# Altium schematic symbol library amd-mach.SCHLIB: 31 symbols (part 1 of 2)
Pins are listed as number, name and electrical type; pins without a type are passive.

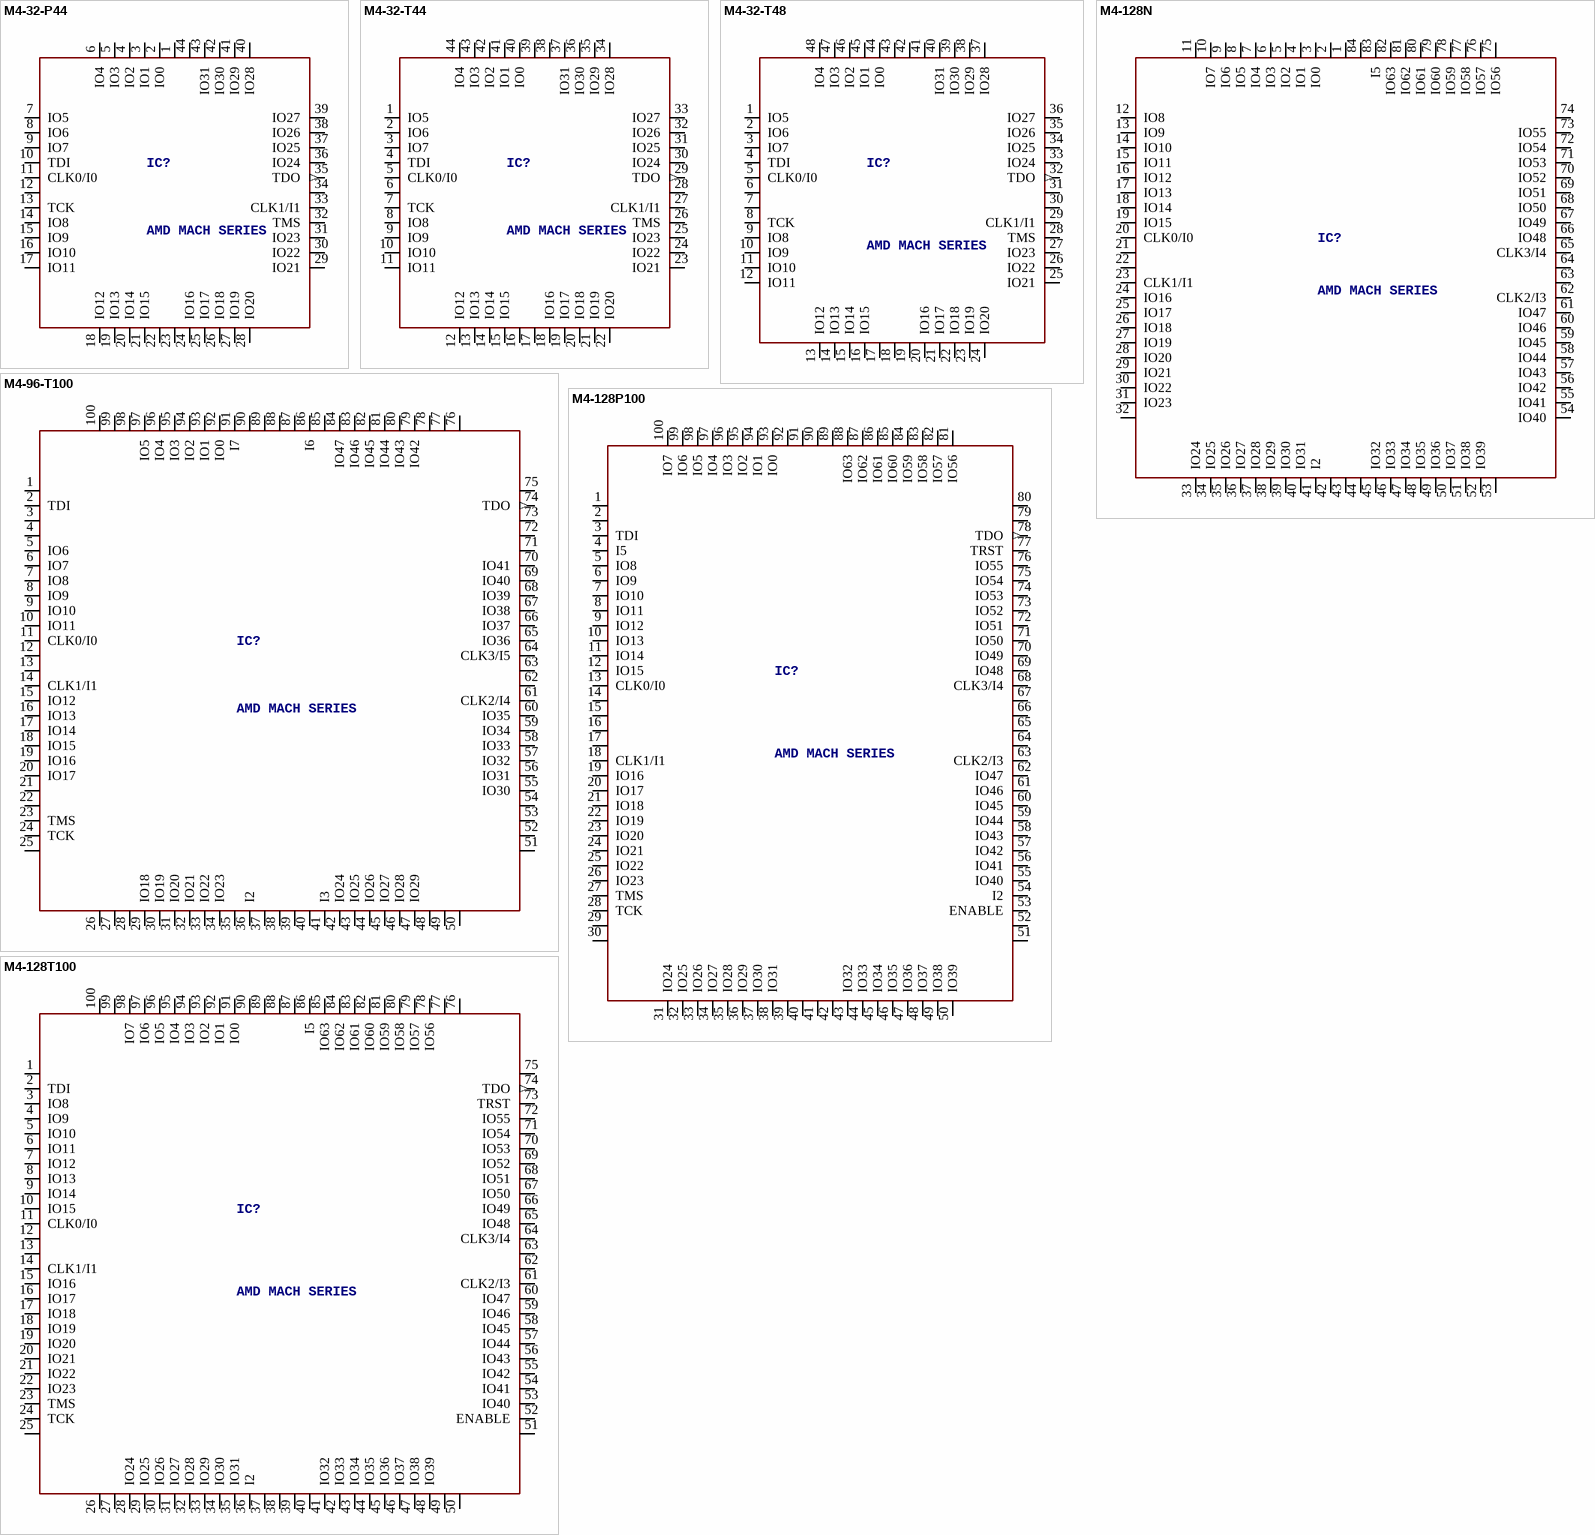
[diagram p0: symbols M4-32-P44 to M4-128T100]

## M4-32-P44
designator IC?, comment AMD MACH SERIES
OC_FARNELL: unknown; OC_NEWARK: unknown
footprint PLCC44
pins: 1 GND@1 (power), 2 IO0, 3 IO1, 4 IO2, 5 IO3, 6 IO4, 7 IO5, 8 IO6, 9 IO7, 10 TDI, 11 CLK0/I0, 12 GND@2 (power), 13 TCK, 14 IO8, 15 IO9, 16 IO10, 17 IO11, 18 IO12, 19 IO13, 20 IO14, 21 IO15, 22 VCC@1 (power), 23 GND@3 (power), 24 IO16, 25 IO17, 26 IO18, 27 IO19, 28 IO20, 29 IO21, 30 IO22, 31 IO23, 32 TMS, 33 CLK1/I1, 34 GND@4 (power), 35 TDO (out), 36 IO24, 37 IO25, 38 IO26, 39 IO27, 40 IO28, 41 IO29, 42 IO30, 43 IO31, 44 VCC@2 (power)

## M4-32-T44
designator IC?, comment AMD MACH SERIES
OC_FARNELL: unknown; OC_NEWARK: unknown
footprint TQFP44
pins: 1 IO5, 2 IO6, 3 IO7, 4 TDI, 5 CLK0/I0, 6 GND@2 (power), 7 TCK, 8 IO8, 9 IO9, 10 IO10, 11 IO11, 12 IO12, 13 IO13, 14 IO14, 15 IO15, 16 VCC@1 (power), 17 GND@3 (power), 18 IO16, 19 IO17, 20 IO18, 21 IO19, 22 IO20, 23 IO21, 24 IO22, 25 IO23, 26 TMS, 27 CLK1/I1, 28 GND@4 (power), 29 TDO (out), 30 IO24, 31 IO25, 32 IO26, 33 IO27, 34 IO28, 35 IO29, 36 IO30, 37 IO31, 38 VCC@2 (power), 39 GND@1 (power), 40 IO0, 41 IO1, 42 IO2, 43 IO3, 44 IO4

## M4-32-T48
designator IC?, comment AMD MACH SERIES
OC_FARNELL: unknown; OC_NEWARK: unknown
footprint TQFP48
pins: 1 IO5, 2 IO6, 3 IO7, 4 TDI, 5 CLK0/I0, 6 NC, 7 GND@2 (power), 8 TCK, 9 IO8, 10 IO9, 11 IO10, 12 IO11, 13 IO12, 14 IO13, 15 IO14, 16 IO15, 17 VCC@1 (power), 18 NC2, 19 GND@3 (power), 20 IO16, 21 IO17, 22 IO18, 23 IO19, 24 IO20, 25 IO21, 26 IO22, 27 IO23, 28 TMS, 29 CLK1/I1, 30 NC3, 31 GND@4 (power), 32 TDO (out), 33 IO24, 34 IO25, 35 IO26, 36 IO27, 37 IO28, 38 IO29, 39 IO30, 40 IO31, 41 VCC@2 (power), 42 NC4, 43 GND@1 (power), 44 IO0, 45 IO1, 46 IO2, 47 IO3, 48 IO4

## M4-96-T100
designator IC?, comment AMD MACH SERIES
OC_FARNELL: unknown; OC_NEWARK: unknown
footprint TQFP100
pins: 1 NC1, 2 TDI, 3 NC2, 4 NC3, 5 IO6, 6 IO7, 7 IO8, 8 IO9, 9 IO10, 10 IO11, 11 CLK0/I0, 12 VCC@1 (power), 13 GND@1 (power), 14 CLK1/I1, 15 IO12, 16 IO13, 17 IO14, 18 IO15, 19 IO16, 20 IO17, 21 NC4, 22 NC5, 23 TMS, 24 TCK, 25 NC6, 26 GND@2 (power), 27 NC7, 28 NC8, 29 IO18, 30 IO19, 31 IO20, 32 IO21, 33 IO22, 34 IO23, 35 NC9, 36 I2, 37 NC10, 38 NC11, 39 GND@3 (power), 40 VCC@2 (power), 41 I3, 42 IO24, 43 IO25, 44 IO26, 45 IO27, 46 IO28, 47 IO29, 48 NC12, 49 NC13, 50 GND@4 (power), 51 NC14, 52 NC15, 53 NC18, 54 NC19, 55 IO30, 56 IO31, 57 IO32, 58 IO33, 59 IO34, 60 IO35, 61 CLK2/I4, 62 VCC@3 (power), 63 GND@5 (power), 64 CLK3/I5, 65 IO36, 66 IO37, 67 IO38, 68 IO39, 69 IO40, 70 IO41, 71 NC20, 72 NC21, 73 NC22, 74 TDO (out), 75 NC23, 76 GND@6 (power), 77 NC24, 78 NC25, 79 IO42, 80 IO43, 81 IO44, 82 IO45, 83 IO46, 84 IO47, 85 NC26, 86 I6, 87 NC27, 88 NC28, 89 GND@7 (power), 90 VCC@4 (power), 91 I7, 92 IO0, 93 IO1, 94 IO2, 95 IO3, 96 IO4, 97 IO5, 98 NC29, 99 NC30, 100 GND@8 (power)

## M4-128N
designator IC?, comment AMD MACH SERIES
OC_FARNELL: 3010089; OC_NEWARK: unknown
footprint PLCC84
pins: 1 GND@1 (power), 2 VCC@1 (power), 3 IO0, 4 IO1, 5 IO2, 6 IO3, 7 IO4, 8 IO5, 9 IO6, 10 IO7, 11 GND@2 (power), 12 IO8, 13 IO9, 14 IO10, 15 IO11, 16 IO12, 17 IO13, 18 IO14, 19 IO15, 20 CLK0/I0, 21 VCC@2 (power), 22 GND@3 (power), 23 CLK1/I1, 24 IO16, 25 IO17, 26 IO18, 27 IO19, 28 IO20, 29 IO21, 30 IO22, 31 IO23, 32 GND@4 (power), 33 IO24, 34 IO25, 35 IO26, 36 IO27, 37 IO28, 38 IO29, 39 IO30, 40 IO31, 41 I2, 42 VCC@3 (power), 43 GND@5 (power), 44 VCC@4 (power), 45 IO32, 46 IO33, 47 IO34, 48 IO35, 49 IO36, 50 IO37, 51 IO38, 52 IO39, 53 GND@6 (power), 54 IO40, 55 IO41, 56 IO42, 57 IO43, 58 IO44, 59 IO45, 60 IO46, 61 IO47, 62 CLK2/I3, 63 VCC@5 (power), 64 GND@7 (power), 65 CLK3/I4, 66 IO48, 67 IO49, 68 IO50, 69 IO51, 70 IO52, 71 IO53, 72 IO54, 73 IO55, 74 GND@8 (power), 75 IO56, 76 IO57, 77 IO58, 78 IO59, 79 IO60, 80 IO61, 81 IO62, 82 IO63, 83 I5, 84 VCC@6 (power)

## M4-128P100
designator IC?, comment AMD MACH SERIES
OC_FARNELL: unknown; OC_NEWARK: unknown
footprint PQFP100
pins: 1 GND@1 (power), 2 GND@2 (power), 3 TDI, 4 I5, 5 IO8, 6 IO9, 7 IO10, 8 IO11, 9 IO12, 10 IO13, 11 IO14, 12 IO15, 13 CLK0/I0, 14 VCC@1 (power), 15 VCC@2 (power), 16 GND@3 (power), 17 GND@4 (power), 18 CLK1/I1, 19 IO16, 20 IO17, 21 IO18, 22 IO19, 23 IO20, 24 IO21, 25 IO22, 26 IO23, 27 TMS, 28 TCK, 29 GND@5 (power), 30 GND@6 (power), 31 IO24, 32 IO25, 33 IO26, 34 IO27, 35 IO28, 36 IO29, 37 IO30, 38 IO31, 39 VCC@4 (power), 40 GND@7 (power), 41 GND@8 (power), 42 VCC@5 (power), 43 IO32, 44 IO33, 45 IO34, 46 IO35, 47 IO36, 48 IO37, 49 IO38, 50 IO39, 51 GND@9 (power), 52 GND@10 (power), 53 ENABLE, 54 I2, 55 IO40, 56 IO41, 57 IO42, 58 IO43, 59 IO44, 60 IO45, 61 IO46, 62 IO47, 63 CLK2/I3, 64 VCC@6 (power), 65 VCC@7 (power), 66 GND@11 (power), 67 GND@12 (power), 68 CLK3/I4, 69 IO48, 70 IO49, 71 IO50, 72 IO51, 73 IO52, 74 IO53, 75 IO54, 76 IO55, 77 TRST, 78 TDO (out), 79 GND@13 (power), 80 GND@14 (power), 81 IO56, 82 IO57, 83 IO58, 84 IO59, 85 IO60, 86 IO61, 87 IO62, 88 IO63, 89 VCC@8 (power), 90 GND@15 (power), 91 GND@16 (power), 92 VCC@9 (power), 93 IO0, 94 IO1, 95 IO2, 96 IO3, 97 IO4, 98 IO5, 99 IO6, 100 IO7

## M4-128T100
designator IC?, comment AMD MACH SERIES
OC_FARNELL: unknown; OC_NEWARK: unknown
footprint TQFP100
pins: 1 GND@1 (power), 2 TDI, 3 IO8, 4 IO9, 5 IO10, 6 IO11, 7 IO12, 8 IO13, 9 IO14, 10 IO15, 11 CLK0/I0, 12 VCC@1 (power), 13 GND@2 (power), 14 CLK1/I1, 15 IO16, 16 IO17, 17 IO18, 18 IO19, 19 IO20, 20 IO21, 21 IO22, 22 IO23, 23 TMS, 24 TCK, 25 GND@3 (power), 26 GND@4 (power), 27 GND@5 (power), 28 IO24, 29 IO25, 30 IO26, 31 IO27, 32 IO28, 33 IO29, 34 IO30, 35 IO31, 36 I2, 37 VCC@4 (power), 38 GND@6 (power), 39 GND@7 (power), 40 VCC@5 (power), 41 IO32, 42 IO33, 43 IO34, 44 IO35, 45 IO36, 46 IO37, 47 IO38, 48 IO39, 49 GND@8 (power), 50 GND@9 (power), 51 GND@10 (power), 52 ENABLE, 53 IO40, 54 IO41, 55 IO42, 56 IO43, 57 IO44, 58 IO45, 59 IO46, 60 IO47, 61 CLK2/I3, 62 VCC@7 (power), 63 GND@11 (power), 64 CLK3/I4, 65 IO48, 66 IO49, 67 IO50, 68 IO51, 69 IO52, 70 IO53, 71 IO54, 72 IO55, 73 TRST, 74 TDO (out), 75 GND@12 (power), 76 GND@13 (power), 77 GND@14 (power), 78 IO56, 79 IO57, 80 IO58, 81 IO59, 82 IO60, 83 IO61, 84 IO62, 85 IO63, 86 I5, 87 VCC@8 (power), 88 GND@15 (power), 89 GND@16 (power), 90 VCC@9 (power), 91 IO0, 92 IO1, 93 IO2, 94 IO3, 95 IO4, 96 IO5, 97 IO6, 98 IO7, 99 GND@17 (power), 100 GND@18 (power)

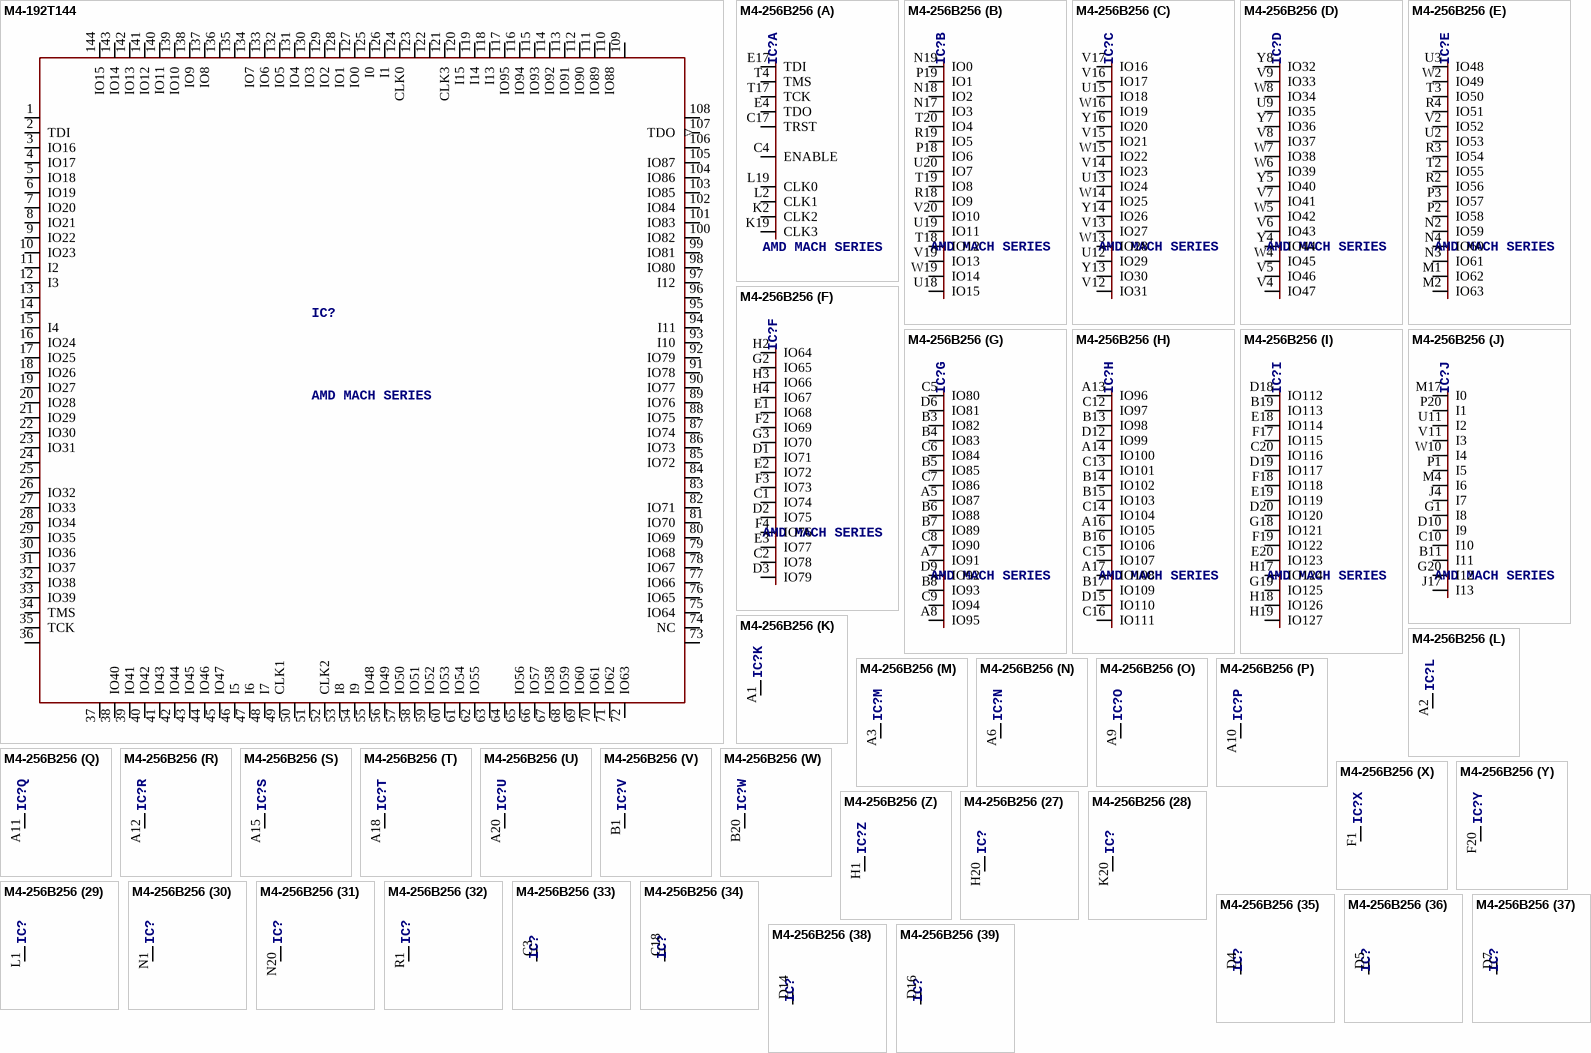
[diagram p1: symbols M4-192T144 to M4-256B256]

## M4-192T144
designator IC?, comment AMD MACH SERIES
OC_FARNELL: unknown; OC_NEWARK: unknown
footprint TQFP144
pins: 1 GND@1 (power), 2 TDI, 3 IO16, 4 IO17, 5 IO18, 6 IO19, 7 IO20, 8 IO21, 9 IO22, 10 IO23, 11 I2, 12 I3, 13 VCC@1 (power), 14 GND@2 (power), 15 I4, 16 IO24, 17 IO25, 18 IO26, 19 IO27, 20 IO28, 21 IO29, 22 IO30, 23 IO31, 24 GND@3 (power), 25 VCC@2 (power), 26 IO32, 27 IO33, 28 IO34, 29 IO35, 30 IO36, 31 IO37, 32 IO38, 33 IO39, 34 TMS, 35 TCK, 36 GND@4 (power), 37 GND@5 (power), 38 IO40, 39 IO41, 40 IO42, 41 IO43, 42 IO44, 43 IO45, 44 IO46, 45 IO47, 46 I5, 47 I6, 48 I7, 49 CLK1, 50 GND@9 (power), 51 VCC@3 (power), 52 CLK2, 53 I8, 54 I9, 55 IO48, 56 IO49, 57 IO50, 58 IO51, 59 IO52, 60 IO53, 61 IO54, 62 IO55, 63 VCC@4 (power), 64 GND@11 (power), 65 IO56, 66 IO57, 67 IO58, 68 IO59, 69 IO60, 70 IO61, 71 IO62, 72 IO63, 73 GND@12 (power), 74 NC, 75 IO64, 76 IO65, 77 IO66, 78 IO67, 79 IO68, 80 IO69, 81 IO70, 82 IO71, 83 VCC@5 (power), 84 GND@13 (power), 85 IO72, 86 IO73, 87 IO74, 88 IO75, 89 IO76, 90 IO77, 91 IO78, 92 IO79, 93 I10, 94 I11, 95 GND@14 (power), 96 VCC@7 (power), 97 I12, 98 IO80, 99 IO81, 100 IO82, 101 IO83, 102 IO84, 103 IO85, 104 IO86, 105 IO87, 106 NC1, 107 TDO (out), 108 GND@15 (power), 109 GND@16 (power), 110 IO88, 111 IO89, 112 IO90, 113 IO91, 114 IO92, 115 IO93, 116 IO94, 117 IO95, 118 I13, 119 I14, 120 I15, 121 CLK3, 122 VCC@8 (power), 123 GND@17 (power), 124 CLK0, 125 I0, 126 I1, 127 IO0, 128 IO1, 129 IO2, 130 IO3, 131 IO4, 132 IO5, 133 IO6, 134 IO7, 135 VCC@9 (power), 136 GND@18 (power), 137 IO8, 138 IO9, 139 IO10, 140 IO11, 141 IO12, 142 IO13, 143 IO14, 144 IO15

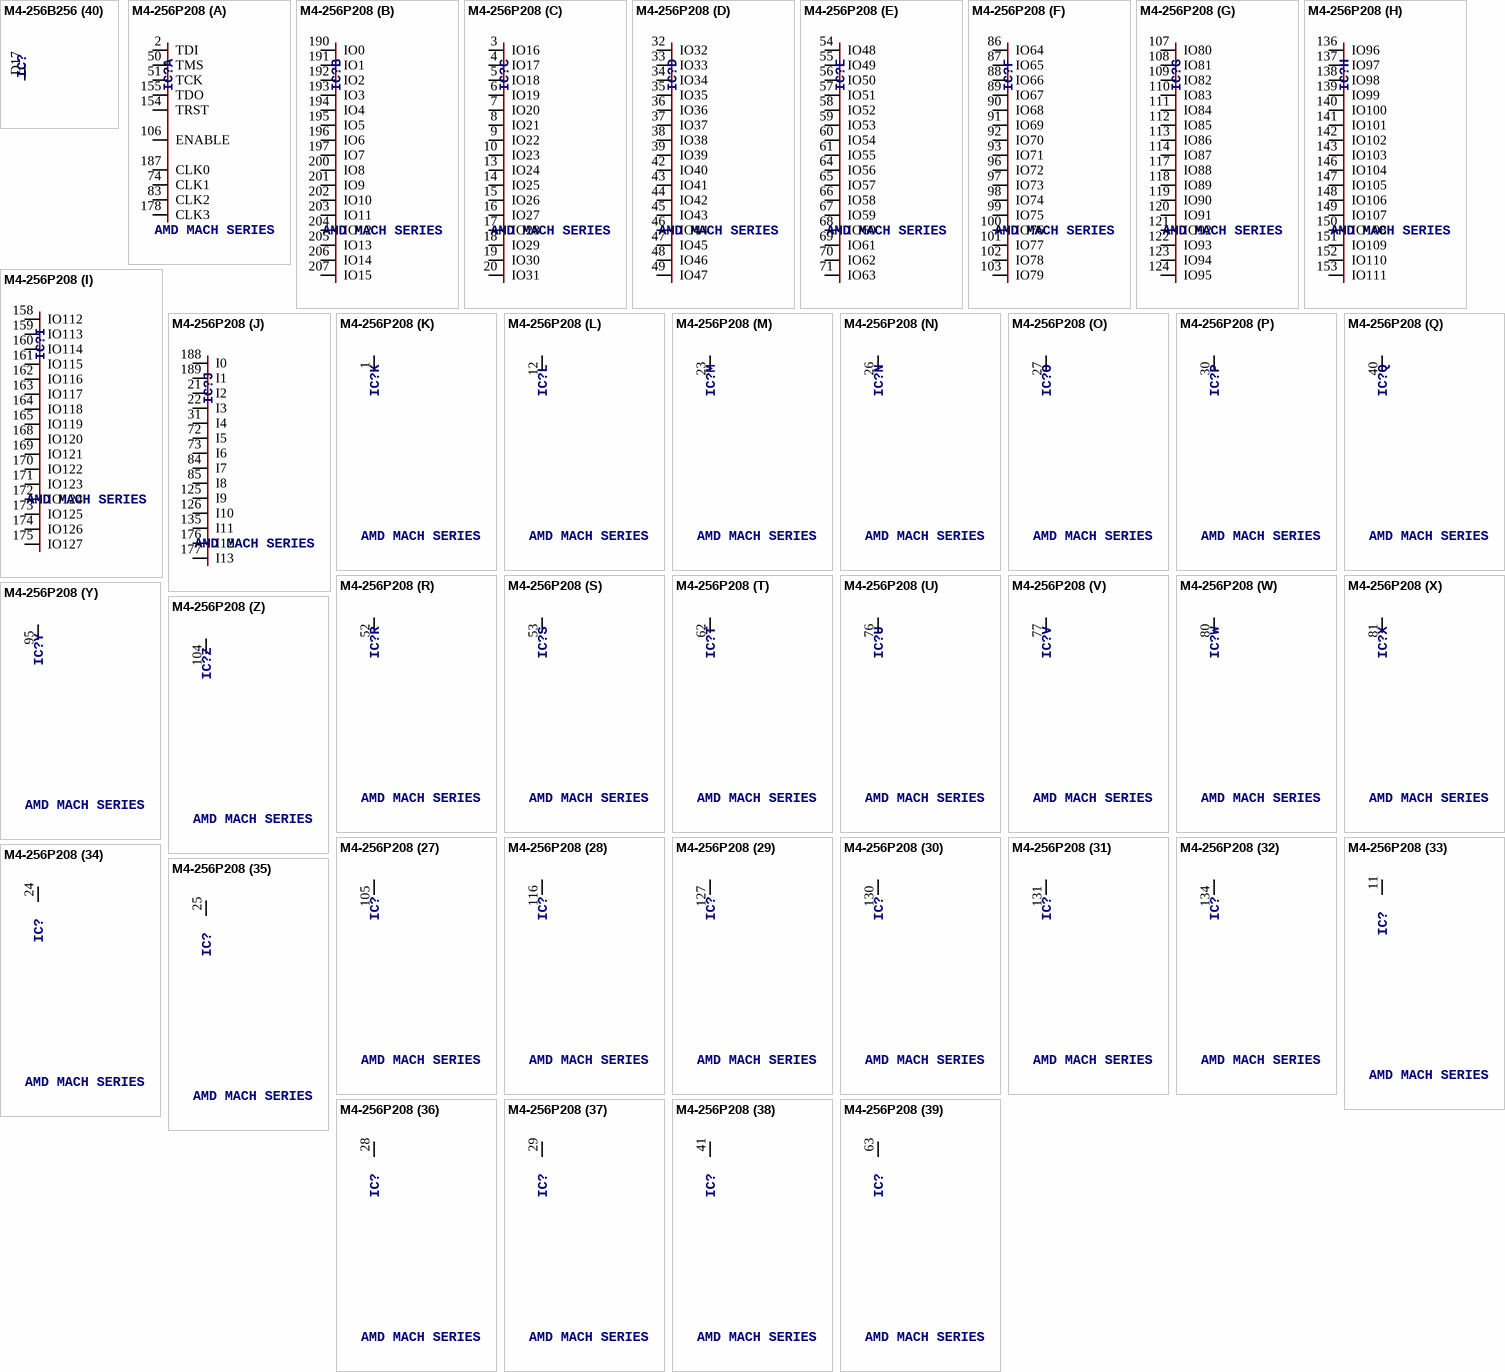
[diagram p2: symbols M4-256B256 to M4-256P208]

## M4-256B256
designator IC?, comment AMD MACH SERIES
OC_FARNELL: unknown; OC_NEWARK: unknown
footprint BGA256S
part A pins: C4 ENABLE, C17 TRST, E4 TDO, E17 TDI, K2 CLK2, K19 CLK3, L2 CLK1, L19 CLK0, T4 TMS, T17 TCK
part B pins: N17 IO3, N18 IO2, N19 IO0, P18 IO6, P19 IO1, R18 IO9, R19 IO5, T18 IO12, T19 IO8, T20 IO4, U18 IO15, U19 IO11, U20 IO7, V19 IO13, V20 IO10, W19 IO14
part C pins: U12 IO29, U13 IO24, U15 IO18, V12 IO31, V13 IO27, V14 IO23, V15 IO21, V16 IO17, V17 IO16, W13 IO28, W14 IO25, W15 IO22, W16 IO19, Y13 IO30, Y14 IO26, Y16 IO20
part D pins: U9 IO35, V4 IO47, V5 IO46, V6 IO43, V7 IO41, V8 IO37, V9 IO33, W4 IO45, W5 IO42, W6 IO39, W7 IO38, W8 IO34, Y4 IO44, Y5 IO40, Y7 IO36, Y8 IO32
part E pins: M1 IO62, M2 IO63, N2 IO59, N3 IO61, N4 IO60, P2 IO58, P3 IO57, R2 IO56, R3 IO54, R4 IO51, T2 IO55, T3 IO50, U2 IO53, U3 IO48, V2 IO52, W2 IO49
part F pins: C1 IO74, C2 IO78, D1 IO71, D2 IO75, D3 IO79, E1 IO68, E2 IO72, E3 IO77, F2 IO69, F3 IO73, F4 IO76, G2 IO65, G3 IO70, H2 IO64, H3 IO66, H4 IO67
part G pins: A5 IO87, A7 IO91, A8 IO95, B3 IO82, B4 IO83, B5 IO85, B6 IO88, B7 IO89, B8 IO93, C5 IO80, C6 IO84, C7 IO86, C8 IO90, C9 IO94, D6 IO81, D9 IO92
part H pins: A13 IO96, A14 IO100, A16 IO105, A17 IO108, B13 IO98, B14 IO102, B15 IO103, B16 IO106, B17 IO109, C12 IO97, C13 IO101, C14 IO104, C15 IO107, C16 IO111, D12 IO99, D15 IO110
part I pins: B19 IO113, C20 IO116, D18 IO112, D19 IO117, D20 IO120, E18 IO114, E19 IO119, E20 IO123, F17 IO115, F18 IO118, F19 IO122, G18 IO121, G19 IO125, H17 IO124, H18 IO126, H19 IO127
part J pins: B11 I11, C10 I10, D10 I9, G1 I8, G20 I12, J4 I7, J17 I13, M4 I6, M17 I0, P1 I5, P20 I1, U11 I2, V11 I3, W10 I4
part K pins: A1 GND (power)
part L pins: A2 GND (power)
part M pins: A3 GND (power)
part N pins: A6 GND (power)
part O pins: A9 GND (power)
part P pins: A10 GND (power)
part Q pins: A11 GND (power)
part R pins: A12 GND (power)
part S pins: A15 GND (power)
part T pins: A18 GND (power)
part U pins: A20 GND (power)
part V pins: B1 GND (power)
part W pins: B20 GND (power)
part X pins: F1 GND (power)
part Y pins: F20 GND (power)
part Z pins: H1 GND (power)
part 27 pins: H20 GND (power)
part 28 pins: K20 GND (power)
part 29 pins: L1 GND (power)
part 30 pins: N1 GND (power)
part 31 pins: N20 GND (power)
part 32 pins: R1 GND (power)
part 33 pins: C3 VCC (power)
part 34 pins: C18 VCC (power)
part 35 pins: D4 VCC (power)
part 36 pins: D5 VCC (power)
part 37 pins: D7 VCC (power)
part 38 pins: D14 VCC (power)
part 39 pins: D16 VCC (power)
part 40 pins: D17 VCC (power)
part 41 pins: G4 VCC (power)
part 42 pins: G17 VCC (power)
part 43 pins: P4 VCC (power)
part 44 pins: P17 VCC (power)
part 45 pins: U4 VCC (power)
part 46 pins: U5 VCC (power)
part 47 pins: U7 VCC (power)
part 48 pins: U14 VCC (power)
part 49 pins: U16 VCC (power)
part 50 pins: U17 VCC (power)
part 51 pins: V3 VCC (power)
part 52 pins: V18 VCC (power)
part 53 pins: R20 GND (power)
part 54 pins: W1 GND (power)
part 55 pins: W20 GND (power)
part 56 pins: Y1 GND (power)
part 57 pins: Y3 GND (power)
part 58 pins: Y6 GND (power)
part 59 pins: Y9 GND (power)
part 60 pins: Y10 GND (power)
part 61 pins: Y11 GND (power)
part 62 pins: Y12 GND (power)
part 63 pins: A4 NC
part 64 pins: A19 NC
part 65 pins: B2 NC
part 66 pins: B9 NC
part 67 pins: B10 NC
part 68 pins: B12 NC
part 69 pins: B18 NC
part 70 pins: C11 NC
part 71 pins: C19 NC
part 72 pins: D8 NC
part 73 pins: D11 NC
part 74 pins: D13 NC
part 75 pins: J1 NC
part 76 pins: J2 NC
part 77 pins: J3 NC
part 78 pins: J18 NC
part 79 pins: J19 NC
part 80 pins: J20 NC
part 81 pins: K1 NC
part 82 pins: K3 NC
part 83 pins: K4 NC
part 84 pins: K17 NC
part 85 pins: K18 NC
part 86 pins: L3 NC
part 87 pins: L4 NC
part 88 pins: L17 NC
part 89 pins: L18 NC
part 90 pins: L20 NC
part 91 pins: M3 NC
part 92 pins: M18 NC
part 93 pins: M19 NC
part 94 pins: M20 NC
part 95 pins: R17 NC
part 96 pins: T1 NC
part 97 pins: U1 NC
part 98 pins: U6 NC
part 99 pins: U8 NC
part 100 pins: U10 NC
part 101 pins: V1 NC
part 102 pins: V10 NC
part 103 pins: W3 NC
part 104 pins: W9 NC
part 105 pins: W11 NC
part 106 pins: W12 NC
part 107 pins: W17 NC
part 108 pins: W18 NC
part 109 pins: Y2 NC
part 110 pins: Y17 NC
part 111 pins: Y15 GND (power)
part 112 pins: Y18 GND (power)
part 113 pins: Y19 GND (power)
part 114 pins: Y20 GND (power)

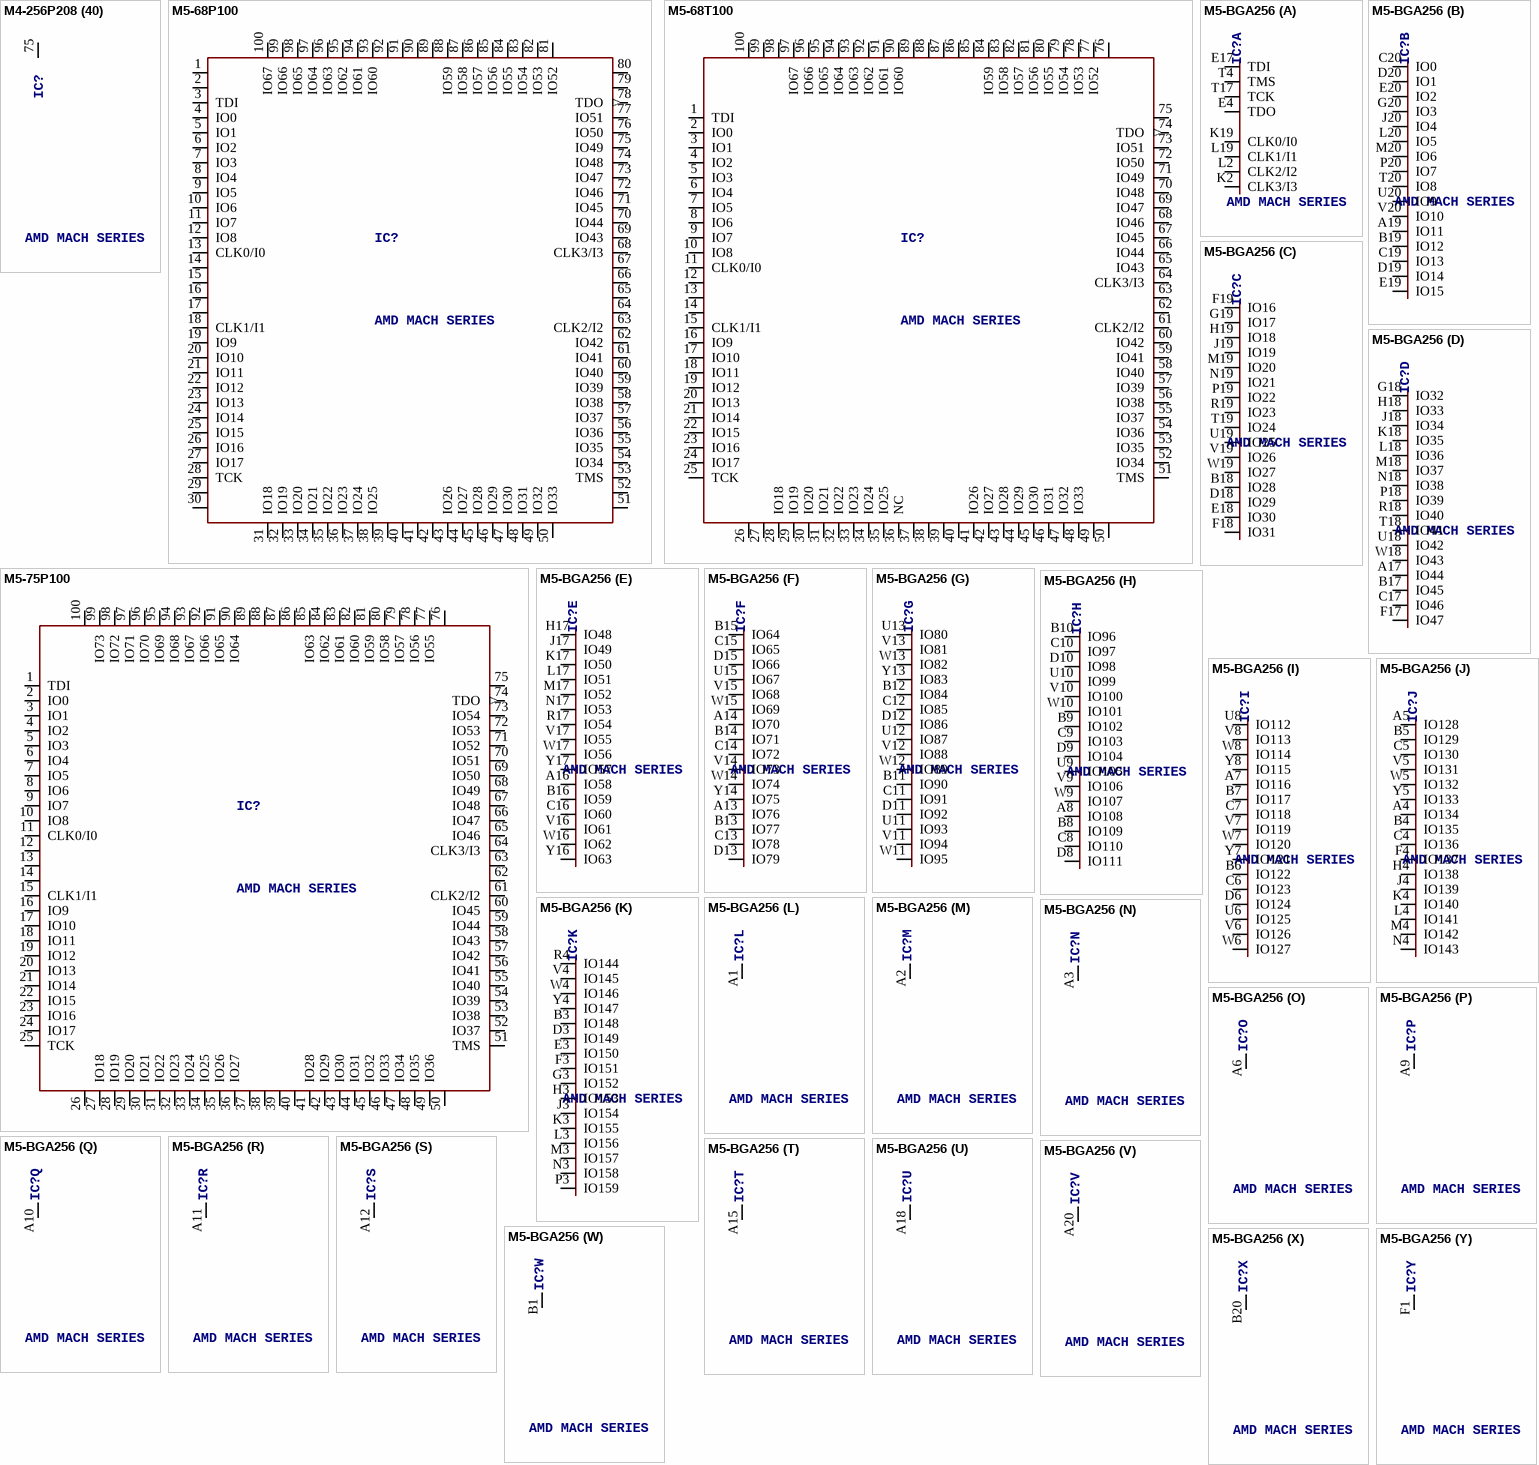
[diagram p3: symbols M4-256P208 to M5-BGA256]

## M4-256P208
designator IC?, comment AMD MACH SERIES
OC_FARNELL: unknown; OC_NEWARK: unknown
footprint PQFP208
part A pins: 2 TDI, 50 TMS, 51 TCK, 74 CLK1, 83 CLK2, 106 ENABLE, 154 TRST, 155 TDO, 178 CLK3, 187 CLK0
part B pins: 190 IO0, 191 IO1, 192 IO2, 193 IO3, 194 IO4, 195 IO5, 196 IO6, 197 IO7, 200 IO8, 201 IO9, 202 IO10, 203 IO11, 204 IO12, 205 IO13, 206 IO14, 207 IO15
part C pins: 3 IO16, 4 IO17, 5 IO18, 6 IO19, 7 IO20, 8 IO21, 9 IO22, 10 IO23, 13 IO24, 14 IO25, 15 IO26, 16 IO27, 17 IO28, 18 IO29, 19 IO30, 20 IO31
part D pins: 32 IO32, 33 IO33, 34 IO34, 35 IO35, 36 IO36, 37 IO37, 38 IO38, 39 IO39, 42 IO40, 43 IO41, 44 IO42, 45 IO43, 46 IO44, 47 IO45, 48 IO46, 49 IO47
part E pins: 54 IO48, 55 IO49, 56 IO50, 57 IO51, 58 IO52, 59 IO53, 60 IO54, 61 IO55, 64 IO56, 65 IO57, 66 IO58, 67 IO59, 68 IO60, 69 IO61, 70 IO62, 71 IO63
part F pins: 86 IO64, 87 IO65, 88 IO66, 89 IO67, 90 IO68, 91 IO69, 92 IO70, 93 IO71, 96 IO72, 97 IO73, 98 IO74, 99 IO75, 100 IO76, 101 IO77, 102 IO78, 103 IO79
part G pins: 107 IO80, 108 IO81, 109 IO82, 110 IO83, 111 IO84, 112 IO85, 113 IO86, 114 IO87, 117 IO88, 118 IO89, 119 IO90, 120 IO91, 121 IO92, 122 IO93, 123 IO94, 124 IO95
part H pins: 136 IO96, 137 IO97, 138 IO98, 139 IO99, 140 IO100, 141 IO101, 142 IO102, 143 IO103, 146 IO104, 147 IO105, 148 IO106, 149 IO107, 150 IO108, 151 IO109, 152 IO110, 153 IO111
part I pins: 158 IO112, 159 IO113, 160 IO114, 161 IO115, 162 IO116, 163 IO117, 164 IO118, 165 IO119, 168 IO120, 169 IO121, 170 IO122, 171 IO123, 172 IO124, 173 IO125, 174 IO126, 175 IO127
part J pins: 21 I2, 22 I3, 31 I4, 72 I5, 73 I6, 84 I7, 85 I8, 125 I9, 126 I10, 135 I11, 176 I12, 177 I13, 188 I0, 189 I1
part K pins: 1 GND (power)
part L pins: 12 GND (power)
part M pins: 23 GND (power)
part N pins: 26 GND (power)
part O pins: 27 GND (power)
part P pins: 30 GND (power)
part Q pins: 40 GND (power)
part R pins: 52 GND (power)
part S pins: 53 GND (power)
part T pins: 62 GND (power)
part U pins: 76 GND (power)
part V pins: 77 GND (power)
part W pins: 80 GND (power)
part X pins: 81 GND (power)
part Y pins: 95 GND (power)
part Z pins: 104 GND (power)
part 27 pins: 105 GND (power)
part 28 pins: 116 GND (power)
part 29 pins: 127 GND (power)
part 30 pins: 130 GND (power)
part 31 pins: 131 GND (power)
part 32 pins: 134 GND (power)
part 33 pins: 11 VCC (power)
part 34 pins: 24 VCC (power)
part 35 pins: 25 VCC (power)
part 36 pins: 28 VCC (power)
part 37 pins: 29 VCC (power)
part 38 pins: 41 VCC (power)
part 39 pins: 63 VCC (power)
part 40 pins: 75 VCC (power)
part 41 pins: 78 VCC (power)
part 42 pins: 79 VCC (power)
part 43 pins: 82 VCC (power)
part 44 pins: 94 VCC (power)
part 45 pins: 115 VCC (power)
part 46 pins: 128 VCC (power)
part 47 pins: 129 VCC (power)
part 48 pins: 132 VCC (power)
part 49 pins: 133 VCC (power)
part 50 pins: 145 VCC (power)
part 51 pins: 167 VCC (power)
part 52 pins: 179 VCC (power)
part 53 pins: 182 VCC (power)
part 54 pins: 183 VCC (power)
part 55 pins: 144 GND (power)
part 56 pins: 156 GND (power)
part 57 pins: 157 GND (power)
part 58 pins: 166 GND (power)
part 59 pins: 180 GND (power)
part 60 pins: 181 GND (power)
part 61 pins: 184 GND (power)
part 62 pins: 185 GND (power)
part 63 pins: 199 GND (power)
part 64 pins: 208 GND (power)
part 65 pins: 186 VCC (power)
part 66 pins: 198 VCC (power)

## M5-68P100
designator IC?, comment AMD MACH SERIES
OC_FARNELL: unknown; OC_NEWARK: unknown
footprint PQFP100
pins: 1 GND@1 (power), 2 GND@2 (power), 3 TDI, 4 IO0, 5 IO1, 6 IO2, 7 IO3, 8 IO4, 9 IO5, 10 IO6, 11 IO7, 12 IO8, 13 CLK0/I0, 14 VCC@1 (power), 15 VCC@2 (power), 16 GND@3 (power), 17 GND@4 (power), 18 CLK1/I1, 19 IO9, 20 IO10, 21 IO11, 22 IO12, 23 IO13, 24 IO14, 25 IO15, 26 IO16, 27 IO17, 28 TCK, 29 GND@5 (power), 30 GND@6 (power), 31 IO18, 32 IO19, 33 IO20, 34 IO21, 35 IO22, 36 IO23, 37 IO24, 38 IO25, 39 VCC@4 (power), 40 GND@7 (power), 41 GND@8 (power), 42 VCC@5 (power), 43 IO26, 44 IO27, 45 IO28, 46 IO29, 47 IO30, 48 IO31, 49 IO32, 50 IO33, 51 GND@9 (power), 52 GND@10 (power), 53 TMS, 54 IO34, 55 IO35, 56 IO36, 57 IO37, 58 IO38, 59 IO39, 60 IO40, 61 IO41, 62 IO42, 63 CLK2/I2, 64 VCC@6 (power), 65 VCC@7 (power), 66 GND@11 (power), 67 GND@12 (power), 68 CLK3/I3, 69 IO43, 70 IO44, 71 IO45, 72 IO46, 73 IO47, 74 IO48, 75 IO49, 76 IO50, 77 IO51, 78 TDO (out), 79 GND@13 (power), 80 GND@14 (power), 81 IO52, 82 IO53, 83 IO54, 84 IO55, 85 IO56, 86 IO57, 87 IO58, 88 IO59, 89 VCC@8 (power), 90 GND@15 (power), 91 GND@16 (power), 92 VCC@9 (power), 93 IO60, 94 IO61, 95 IO62, 96 IO63, 97 IO64, 98 IO65, 99 IO66, 100 IO67

## M5-68T100
designator IC?, comment AMD MACH SERIES
OC_FARNELL: unknown; OC_NEWARK: unknown
footprint TQFP100
pins: 1 TDI, 2 IO0, 3 IO1, 4 IO2, 5 IO3, 6 IO4, 7 IO5, 8 IO6, 9 IO7, 10 IO8, 11 CLK0/I0, 12 VCC@1 (power), 13 GND@3 (power), 14 GND@4 (power), 15 CLK1/I1, 16 IO9, 17 IO10, 18 IO11, 19 IO12, 20 IO13, 21 IO14, 22 IO15, 23 IO16, 24 IO17, 25 TCK, 26 GND@5 (power), 27 GND@6 (power), 28 IO18, 29 IO19, 30 IO20, 31 IO21, 32 IO22, 33 IO23, 34 IO24, 35 IO25, 36 NC, 37 VCC@2 (power), 38 GND@7 (power), 39 GND@8 (power), 40 VCC@4 (power), 41 IO26, 42 IO27, 43 IO28, 44 IO29, 45 IO30, 46 IO31, 47 IO32, 48 IO33, 49 GND@9 (power), 50 GND@10 (power), 51 TMS, 52 IO34, 53 IO35, 54 IO36, 55 IO37, 56 IO38, 57 IO39, 58 IO40, 59 IO41, 60 IO42, 61 CLK2/I2, 62 VCC@5 (power), 63 GND@11 (power), 64 CLK3/I3, 65 IO43, 66 IO44, 67 IO45, 68 IO46, 69 IO47, 70 IO48, 71 IO49, 72 IO50, 73 IO51, 74 TDO (out), 75 GND@13 (power), 76 GND@14 (power), 77 IO52, 78 IO53, 79 IO54, 80 IO55, 81 IO56, 82 IO57, 83 IO58, 84 IO59, 85 NC1, 86 VCC@6 (power), 87 GND@15 (power), 88 GND@16 (power), 89 VCC@8 (power), 90 IO60, 91 IO61, 92 IO62, 93 IO63, 94 IO64, 95 IO65, 96 IO66, 97 IO67, 98 VCC@9 (power), 99 GND@1 (power), 100 GND@2 (power)

## M5-75P100
designator IC?, comment AMD MACH SERIES
OC_FARNELL: unknown; OC_NEWARK: unknown
footprint PQFP100
pins: 1 TDI, 2 IO0, 3 IO1, 4 IO2, 5 IO3, 6 IO4, 7 IO5, 8 IO6, 9 IO7, 10 IO8, 11 CLK0/I0, 12 VCC@1 (power), 13 GND@3 (power), 14 GND@4 (power), 15 CLK1/I1, 16 IO9, 17 IO10, 18 IO11, 19 IO12, 20 IO13, 21 IO14, 22 IO15, 23 IO16, 24 IO17, 25 TCK, 26 GND@5 (power), 27 IO18, 28 IO19, 29 IO20, 30 IO21, 31 IO22, 32 IO23, 33 IO24, 34 IO25, 35 IO26, 36 IO27, 37 VCC@2 (power), 38 GND@7 (power), 39 GND@8 (power), 40 VCC@4 (power), 41 IO28, 42 IO29, 43 IO30, 44 IO31, 45 IO32, 46 IO33, 47 IO34, 48 IO35, 49 IO36, 50 GND@10 (power), 51 TMS, 52 IO37, 53 IO38, 54 IO39, 55 IO40, 56 IO41, 57 IO42, 58 IO43, 59 IO44, 60 IO45, 61 CLK2/I2, 62 VCC@5 (power), 63 GND@11 (power), 64 CLK3/I3, 65 IO46, 66 IO47, 67 IO48, 68 IO49, 69 IO50, 70 IO51, 71 IO52, 72 IO53, 73 IO54, 74 TDO (out), 75 GND@13 (power), 76 GND@14 (power), 77 IO55, 78 IO56, 79 IO57, 80 IO58, 81 IO59, 82 IO60, 83 IO61, 84 IO62, 85 IO63, 86 VCC@6 (power), 87 GND@15 (power), 88 GND@16 (power), 89 VCC@8 (power), 90 IO64, 91 IO65, 92 IO66, 93 IO67, 94 IO68, 95 IO69, 96 IO70, 97 IO71, 98 IO72, 99 IO73, 100 GND@2 (power)

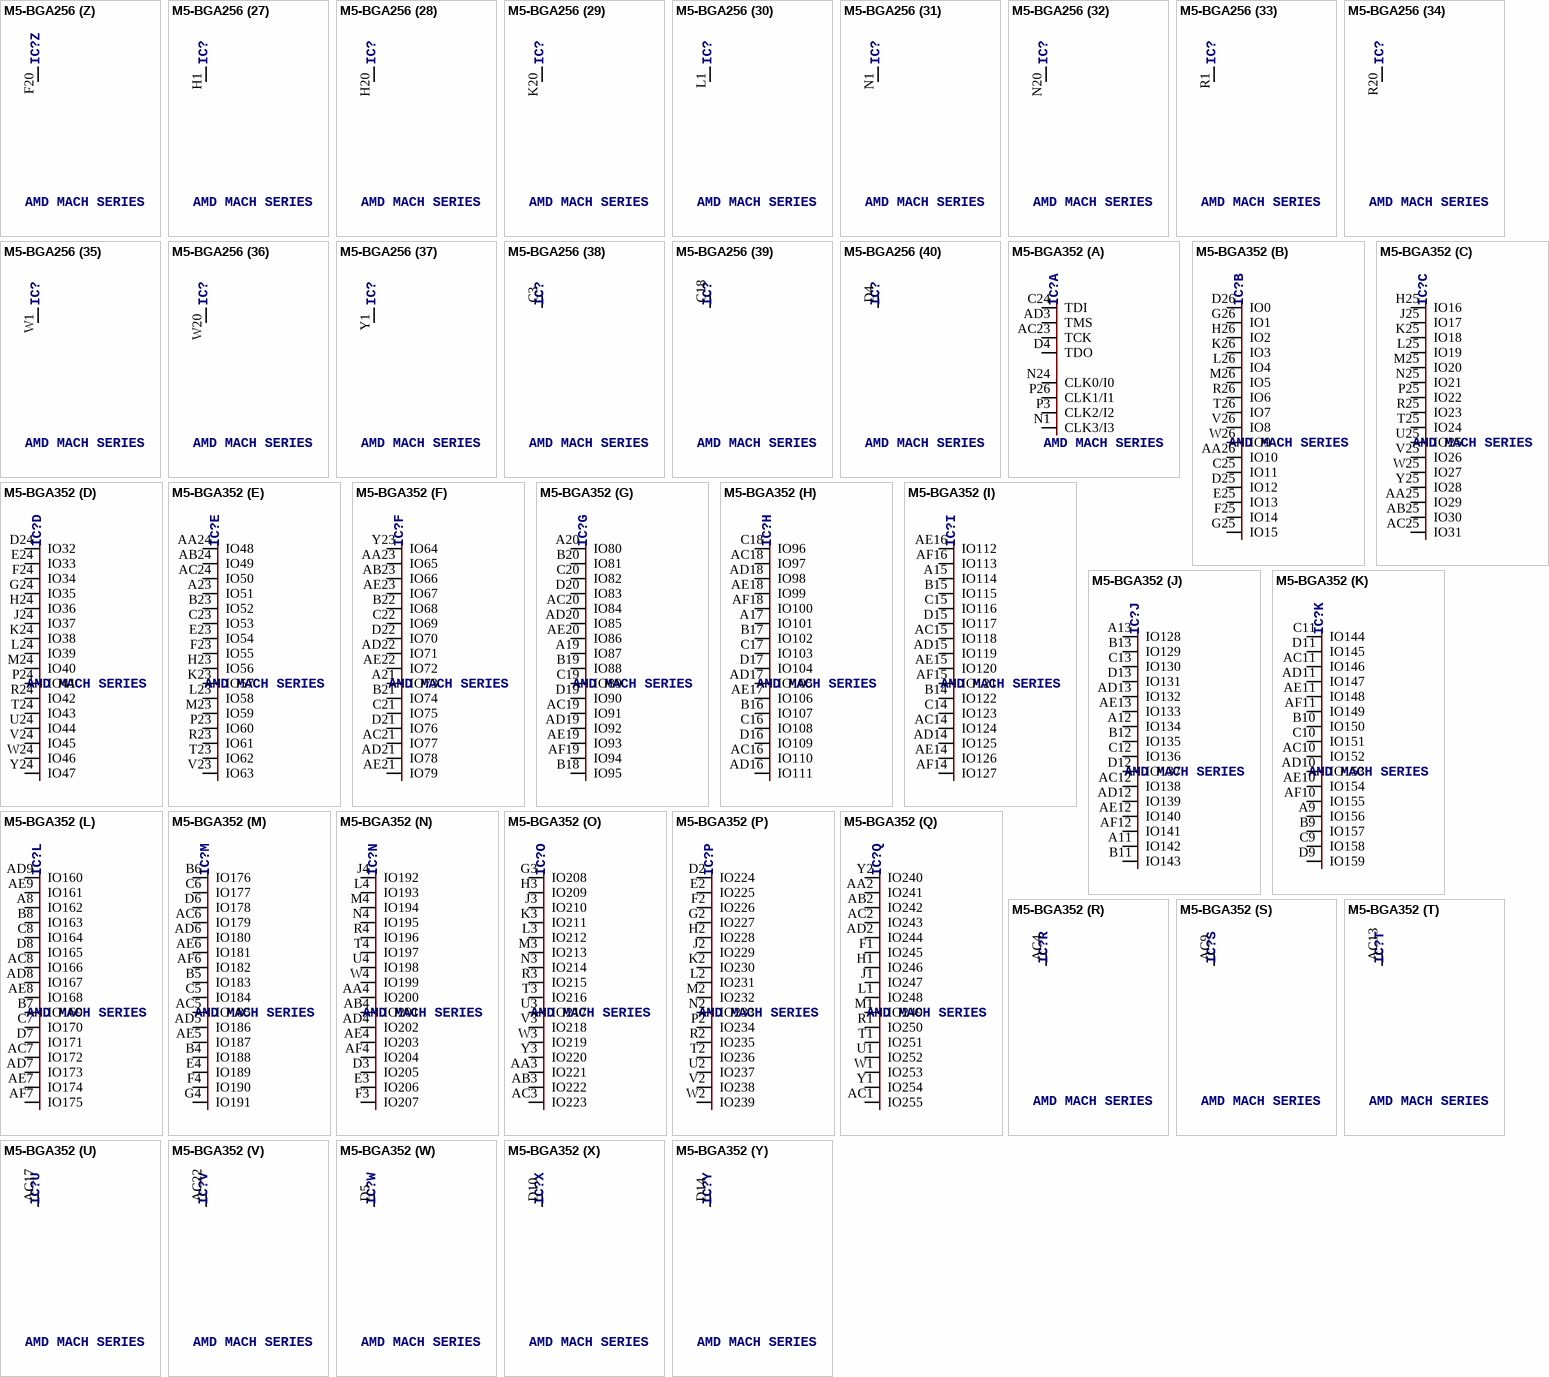
[diagram p4: symbols M5-BGA256 to M5-BGA352]

## M5-BGA256
designator IC?, comment AMD MACH SERIES
OC_FARNELL: unknown; OC_NEWARK: unknown
footprint BGA256S
part A pins: E4 TDO, E17 TDI, K2 CLK3/I3, K19 CLK0/I0, L2 CLK2/I2, L19 CLK1/I1, T4 TMS, T17 TCK
part B pins: A19 IO11, B19 IO12, C19 IO13, C20 IO0, D19 IO14, D20 IO1, E19 IO15, E20 IO2, G20 IO3, J20 IO4, L20 IO5, M20 IO6, P20 IO7, T20 IO8, U20 IO9, V20 IO10
part C pins: B18 IO28, D18 IO29, E18 IO30, F18 IO31, F19 IO16, G19 IO17, H19 IO18, J19 IO19, M19 IO20, N19 IO21, P19 IO22, R19 IO23, T19 IO24, U19 IO25, V19 IO26, W19 IO27
part D pins: A17 IO44, B17 IO45, C17 IO46, F17 IO47, G18 IO32, H18 IO33, J18 IO34, K18 IO35, L18 IO36, M18 IO37, N18 IO38, P18 IO39, R18 IO40, T18 IO41, U18 IO42, W18 IO43
part E pins: A16 IO58, B16 IO59, C16 IO60, H17 IO48, J17 IO49, K17 IO50, L17 IO51, M17 IO52, N17 IO53, R17 IO54, V16 IO61, V17 IO55, W16 IO62, W17 IO56, Y16 IO63, Y17 IO57
part F pins: A13 IO76, A14 IO70, B13 IO77, B14 IO71, B15 IO64, C13 IO78, C14 IO72, C15 IO65, D13 IO79, D15 IO66, U15 IO67, V14 IO73, V15 IO68, W14 IO74, W15 IO69, Y14 IO75
part G pins: B11 IO90, B12 IO84, C11 IO91, C12 IO85, D11 IO92, D12 IO86, U11 IO93, U12 IO87, U13 IO80, V11 IO94, V12 IO88, V13 IO81, W11 IO95, W12 IO89, W13 IO82, Y13 IO83
part H pins: A8 IO108, B8 IO109, B9 IO102, B10 IO96, C8 IO110, C9 IO103, C10 IO97, D8 IO111, D9 IO104, D10 IO98, U9 IO105, U10 IO99, V9 IO106, V10 IO100, W9 IO107, W10 IO101
part I pins: A7 IO116, B6 IO122, B7 IO117, C6 IO123, C7 IO118, D6 IO124, U6 IO125, U8 IO112, V6 IO126, V7 IO119, V8 IO113, W6 IO127, W7 IO120, W8 IO114, Y7 IO121, Y8 IO115
part J pins: A4 IO134, A5 IO128, B4 IO135, B5 IO129, C4 IO136, C5 IO130, F4 IO137, H4 IO138, J4 IO139, K4 IO140, L4 IO141, M4 IO142, N4 IO143, V5 IO131, W5 IO132, Y5 IO133
part K pins: B3 IO148, D3 IO149, E3 IO150, F3 IO151, G3 IO152, H3 IO153, J3 IO154, K3 IO155, L3 IO156, M3 IO157, N3 IO158, P3 IO159, R4 IO144, V4 IO145, W4 IO146, Y4 IO147
part L pins: A1 GND (power)
part M pins: A2 GND (power)
part N pins: A3 GND (power)
part O pins: A6 GND (power)
part P pins: A9 GND (power)
part Q pins: A10 GND (power)
part R pins: A11 GND (power)
part S pins: A12 GND (power)
part T pins: A15 GND (power)
part U pins: A18 GND (power)
part V pins: A20 GND (power)
part W pins: B1 GND (power)
part X pins: B20 GND (power)
part Y pins: F1 GND (power)
part Z pins: F20 GND (power)
part 27 pins: H1 GND (power)
part 28 pins: H20 GND (power)
part 29 pins: K20 GND (power)
part 30 pins: L1 GND (power)
part 31 pins: N1 GND (power)
part 32 pins: N20 GND (power)
part 33 pins: R1 GND (power)
part 34 pins: R20 GND (power)
part 35 pins: W1 GND (power)
part 36 pins: W20 GND (power)
part 37 pins: Y1 GND (power)
part 38 pins: C3 VCC (power)
part 39 pins: C18 VCC (power)
part 40 pins: D4 VCC (power)
part 41 pins: D5 VCC (power)
part 42 pins: D7 VCC (power)
part 43 pins: D14 VCC (power)
part 44 pins: D16 VCC (power)
part 45 pins: D17 VCC (power)
part 46 pins: G17 VCC (power)
part 47 pins: G4 VCC (power)
part 48 pins: P4 VCC (power)
part 49 pins: P17 VCC (power)
part 50 pins: U4 VCC (power)
part 51 pins: U5 VCC (power)
part 52 pins: B2 IO164, C2 IO165, D2 IO166, E2 IO167, F2 IO168, G2 IO169, H2 IO170, J2 IO171, M2 IO172, N2 IO173, P2 IO174, R2 IO175, R3 IO160, T3 IO161, U3 IO162, W3 IO163
part 53 pins: C1 IO181, D1 IO182, E1 IO183, G1 IO184, J1 IO185, K1 IO186, M1 IO187, P1 IO188, T1 IO189, T2 IO176, U1 IO190, U2 IO177, V1 IO191, V2 IO178, W2 IO179, Y2 IO180
part 54 pins: U7 VCC (power)
part 55 pins: U14 VCC (power)
part 56 pins: U16 VCC (power)
part 57 pins: U17 VCC (power)
part 58 pins: V3 VCC (power)
part 59 pins: V18 VCC (power)
part 60 pins: Y3 GND (power)
part 61 pins: Y6 GND (power)
part 62 pins: Y9 GND (power)
part 63 pins: Y10 GND (power)
part 64 pins: Y11 GND (power)
part 65 pins: Y12 GND (power)
part 66 pins: Y15 GND (power)
part 67 pins: Y18 GND (power)
part 68 pins: Y19 GND (power)
part 69 pins: Y20 GND (power)

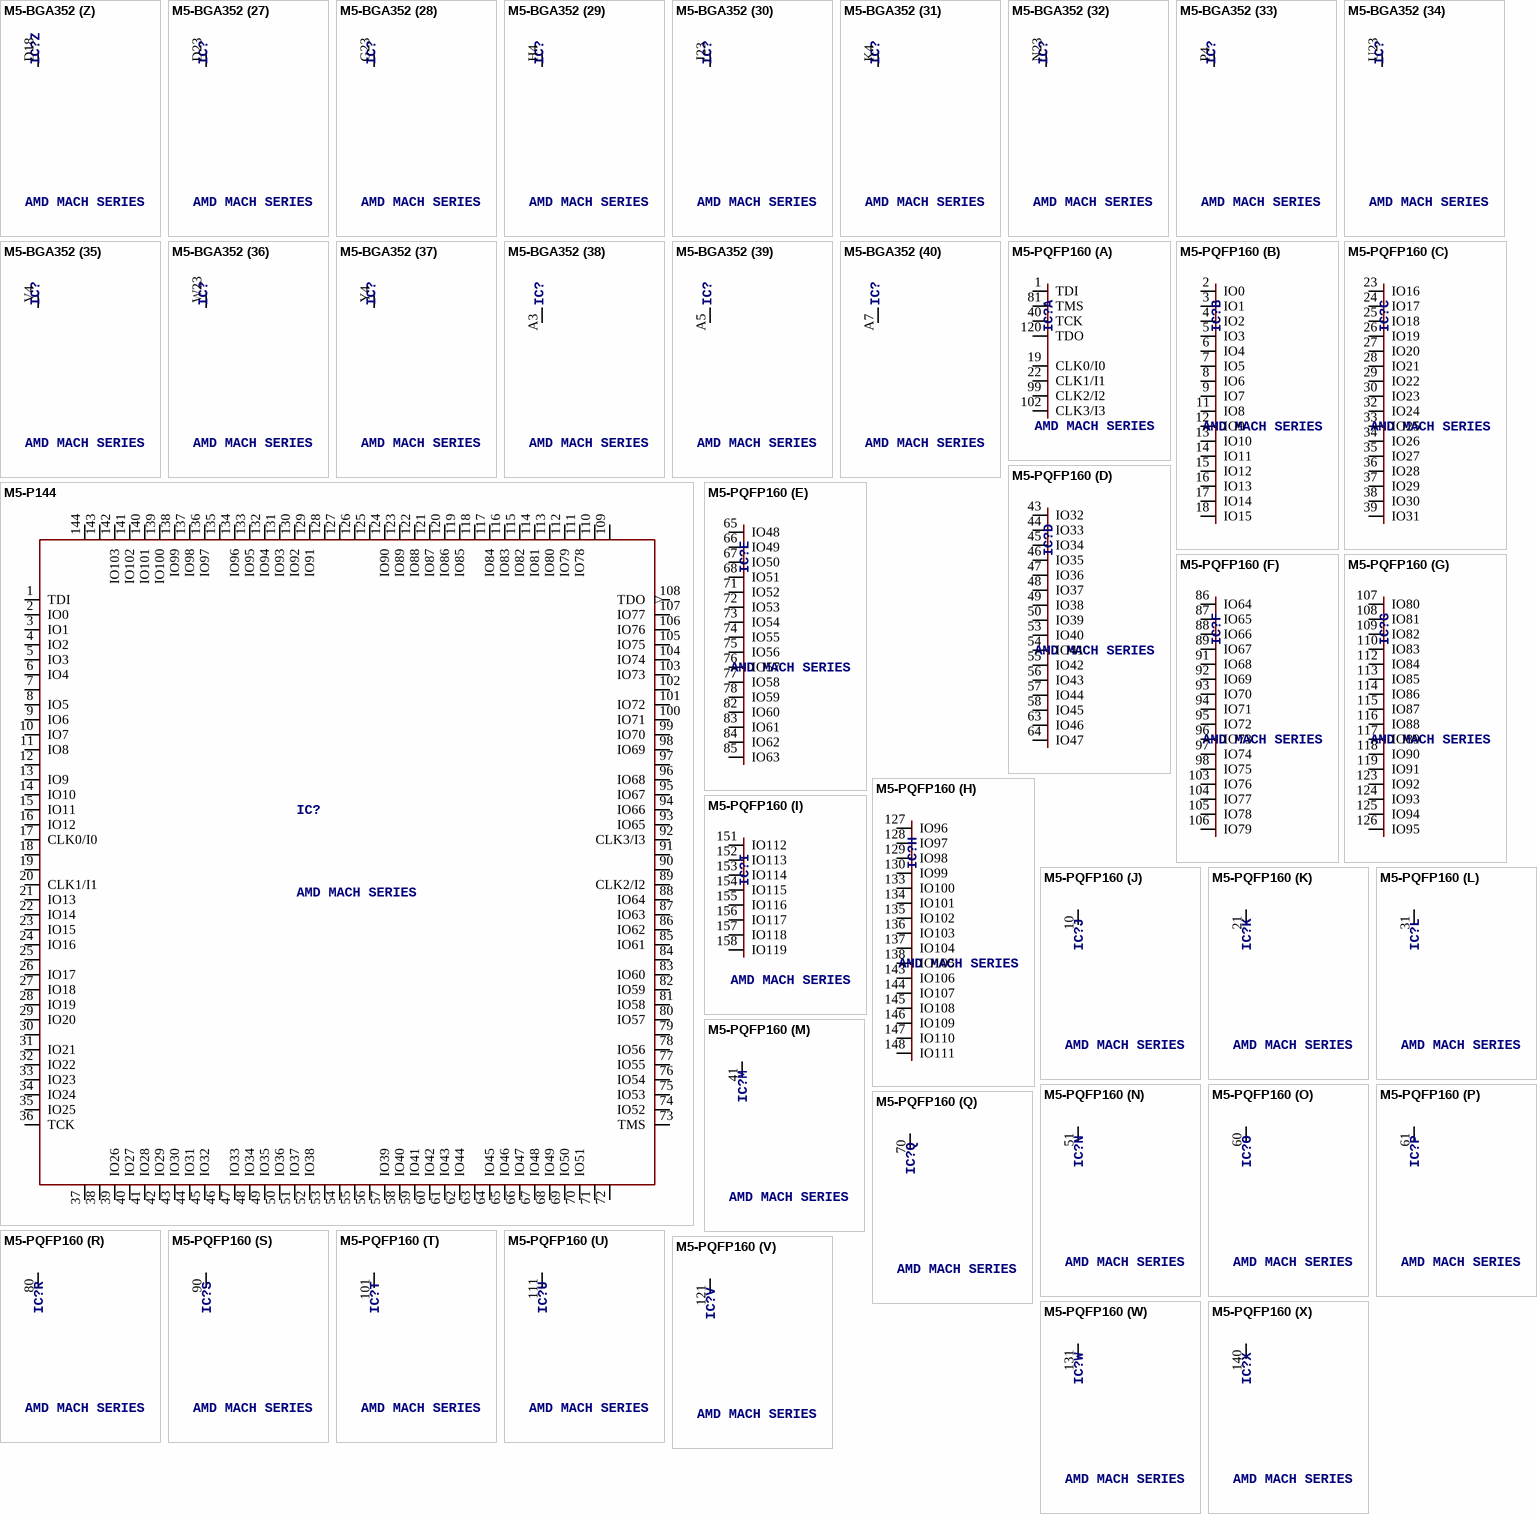
[diagram p5: symbols M5-BGA352 to M5-PQFP160]

## M5-BGA352
designator IC?, comment AMD MACH SERIES
OC_FARNELL: unknown; OC_NEWARK: unknown
footprint GBA352S
part A pins: AC23 TCK, AD3 TMS, C24 TDI, D4 TDO, N1 CLK3/I3, N24 CLK0/I0, P3 CLK2/I2, P26 CLK1/I1
part B pins: AA26 IO10, C25 IO11, D25 IO12, D26 IO0, E25 IO13, F25 IO14, G25 IO15, G26 IO1, H26 IO2, K26 IO3, L26 IO4, M26 IO5, R26 IO6, T26 IO7, V26 IO8, W26 IO9
part C pins: AA25 IO29, AB25 IO30, AC25 IO31, H25 IO16, J25 IO17, K25 IO18, L25 IO19, M25 IO20, N25 IO21, P25 IO22, R25 IO23, T25 IO24, U25 IO25, V25 IO26, W25 IO27, Y25 IO28
part D pins: D24 IO32, E24 IO33, F24 IO34, G24 IO35, H24 IO36, J24 IO37, K24 IO38, L24 IO39, M24 IO40, P24 IO41, R24 IO42, T24 IO43, U24 IO44, V24 IO45, W24 IO46, Y24 IO47
part E pins: A23 IO51, AA24 IO48, AB24 IO49, AC24 IO50, B23 IO52, C23 IO53, E23 IO54, F23 IO55, H23 IO56, K23 IO57, L23 IO58, M23 IO59, P23 IO60, R23 IO61, T23 IO62, V23 IO63
part F pins: A21 IO73, AA23 IO65, AB23 IO66, AC21 IO77, AD21 IO78, AD22 IO71, AE21 IO79, AE22 IO72, AE23 IO67, B21 IO74, B22 IO68, C21 IO75, C22 IO69, D21 IO76, D22 IO70, Y23 IO64
part G pins: A19 IO87, A20 IO80, AC19 IO91, AC20 IO84, AD19 IO92, AD20 IO85, AE19 IO93, AE20 IO86, AF19 IO94, B18 IO95, B19 IO88, B20 IO81, C19 IO89, C20 IO82, D19 IO90, D20 IO83
part H pins: A17 IO101, AC16 IO110, AC18 IO97, AD16 IO111, AD17 IO105, AD18 IO98, AE17 IO106, AE18 IO99, AF18 IO100, B16 IO107, B17 IO102, C16 IO108, C17 IO103, C18 IO96, D16 IO109, D17 IO104
part I pins: A15 IO114, AC14 IO124, AC15 IO118, AD14 IO125, AD15 IO119, AE14 IO126, AE15 IO120, AE16 IO112, AF14 IO127, AF15 IO121, AF16 IO113, B14 IO122, B15 IO115, C14 IO123, C15 IO116, D15 IO117
part J pins: A11 IO142, A12 IO134, A13 IO128, AC12 IO138, AD12 IO139, AD13 IO132, AE12 IO140, AE13 IO133, AF12 IO141, B11 IO143, B12 IO135, B13 IO129, C12 IO136, C13 IO130, D12 IO137, D13 IO131
part K pins: A9 IO156, AC10 IO152, AC11 IO146, AD10 IO153, AD11 IO147, AE10 IO154, AE11 IO148, AF10 IO155, AF11 IO149, B9 IO157, B10 IO150, C9 IO158, C10 IO151, C11 IO144, D9 IO159, D11 IO145
part L pins: A8 IO162, AC7 IO172, AC8 IO166, AD7 IO173, AD8 IO167, AD9 IO160, AE7 IO174, AE8 IO168, AE9 IO161, AF7 IO175, B7 IO169, B8 IO163, C7 IO170, C8 IO164, D7 IO171, D8 IO165
part M pins: AC5 IO185, AC6 IO179, AD5 IO186, AD6 IO180, AE5 IO187, AE6 IO181, AF6 IO182, B4 IO188, B5 IO183, B6 IO176, C5 IO184, C6 IO177, D6 IO178, E4 IO189, F4 IO190, G4 IO191
part N pins: AA4 IO200, AB4 IO201, AD4 IO202, AE4 IO203, AF4 IO204, D3 IO205, E3 IO206, F3 IO207, J4 IO192, L4 IO193, M4 IO194, N4 IO195, R4 IO196, T4 IO197, U4 IO198, W4 IO199
part O pins: AA3 IO221, AB3 IO222, AC3 IO223, G3 IO208, H3 IO209, J3 IO210, K3 IO211, L3 IO212, M3 IO213, N3 IO214, R3 IO215, T3 IO216, U3 IO217, V3 IO218, W3 IO219, Y3 IO220
part P pins: D2 IO224, E2 IO225, F2 IO226, G2 IO227, H2 IO228, J2 IO229, K2 IO230, L2 IO231, M2 IO232, N2 IO233, P2 IO234, R2 IO235, T2 IO236, U2 IO237, V2 IO238, W2 IO239
part Q pins: AA2 IO241, AB2 IO242, AC1 IO255, AC2 IO243, AD2 IO244, F1 IO245, H1 IO246, J1 IO247, L1 IO248, M1 IO249, R1 IO250, T1 IO251, U1 IO252, W1 IO253, Y1 IO254, Y2 IO240
part R pins: AC4 VCC (power)
part S pins: AC9 VCC (power)
part T pins: AC13 VCC (power)
part U pins: AC17 VCC (power)
part V pins: AC22 VCC (power)
part W pins: D5 VCC (power)
part X pins: D10 VCC (power)
part Y pins: D14 VCC (power)
part Z pins: D18 VCC (power)
part 27 pins: D23 VCC (power)
part 28 pins: G23 VCC (power)
part 29 pins: H4 VCC (power)
part 30 pins: J23 VCC (power)
part 31 pins: K4 VCC (power)
part 32 pins: N23 VCC (power)
part 33 pins: P4 VCC (power)
part 34 pins: U23 VCC (power)
part 35 pins: V4 VCC (power)
part 36 pins: W23 VCC (power)
part 37 pins: Y4 VCC (power)
part 38 pins: A3 GND (power)
part 39 pins: A5 GND (power)
part 40 pins: A7 GND (power)
part 41 pins: A10 GND (power)
part 42 pins: A14 GND (power)
part 43 pins: A18 GND (power)
part 44 pins: A22 GND (power)
part 45 pins: A25 GND (power)
part 46 pins: AA1 GND (power)
part 47 pins: AC26 GND (power)
part 48 pins: AD1 GND (power)
part 49 pins: AE2 GND (power)
part 50 pins: AE24 GND (power)
part 51 pins: AF2 GND (power)
part 52 pins: AF5 GND (power)
part 53 pins: AF9 GND (power)
part 54 pins: AF13 GND (power)
part 55 pins: AF17 GND (power)
part 56 pins: AF20 GND (power)
part 57 pins: AF22 GND (power)
part 58 pins: AF24 GND (power)
part 59 pins: B3 GND (power)
part 60 pins: B25 GND (power)
part 61 pins: A1 NC
part 62 pins: A2 NC
part 63 pins: A4 NC
part 64 pins: A6 NC
part 65 pins: A16 NC
part 66 pins: A24 NC
part 67 pins: A26 NC
part 68 pins: AB1 NC
part 69 pins: AB26 NC
part 70 pins: AD23 NC
part 71 pins: AD24 NC
part 72 pins: AD25 NC
part 73 pins: AD26 NC
part 74 pins: AE1 NC
part 75 pins: AE3 NC
part 76 pins: AE25 NC
part 77 pins: AE26 NC
part 78 pins: AF1 NC
part 79 pins: AF3 NC
part 80 pins: AF8 NC
part 81 pins: AF21 NC
part 82 pins: AF23 NC
part 83 pins: AF25 NC
part 84 pins: AF26 NC
part 85 pins: B1 NC
part 86 pins: B2 NC
part 87 pins: B24 NC
part 88 pins: B26 NC
part 89 pins: C1 NC
part 90 pins: E1 NC
part 91 pins: C26 GND (power)
part 92 pins: D1 GND (power)
part 93 pins: F26 GND (power)
part 94 pins: G1 GND (power)
part 95 pins: J26 GND (power)
part 96 pins: K1 GND (power)
part 97 pins: N26 GND (power)
part 98 pins: P1 GND (power)
part 99 pins: U26 GND (power)
part 100 pins: E26 NC
part 101 pins: C4 NC
part 102 pins: C3 NC
part 103 pins: C2 NC
part 104 pins: V1 GND (power)
part 105 pins: Y26 GND (power)

## M5-P144
designator IC?, comment AMD MACH SERIES
OC_FARNELL: unknown; OC_NEWARK: unknown
footprint PQFP144
pins: 1 TDI, 2 IO0, 3 IO1, 4 IO2, 5 IO3, 6 IO4, 7 GND@1 (power), 8 IO5, 9 IO6, 10 IO7, 11 IO8, 12 GND@2 (power), 13 IO9, 14 IO10, 15 IO11, 16 IO12, 17 CLK0/I0, 18 VCC@1 (power), 19 GND@3 (power), 20 CLK1/I1, 21 IO13, 22 IO14, 23 IO15, 24 IO16, 25 GND@4 (power), 26 IO17, 27 IO18, 28 IO19, 29 IO20, 30 GND@5 (power), 31 IO21, 32 IO22, 33 IO23, 34 IO24, 35 IO25, 36 TCK, 37 GND@6 (power), 38 VCC@2 (power), 39 IO26, 40 IO27, 41 IO28, 42 IO29, 43 IO30, 44 IO31, 45 IO32, 46 GND@7 (power), 47 IO33, 48 IO34, 49 IO35, 50 IO36, 51 IO37, 52 IO38, 53 VCC@3 (power), 54 GND@8 (power), 55 GND@9 (power), 56 VCC@4 (power), 57 IO39, 58 IO40, 59 IO41, 60 IO42, 61 IO43, 62 IO44, 63 GND@10 (power), 64 IO45, 65 IO46, 66 IO47, 67 IO48, 68 IO49, 69 IO50, 70 IO51, 71 VCC@5 (power), 72 GND@11 (power), 73 TMS, 74 IO52, 75 IO53, 76 IO54, 77 IO55, 78 IO56, 79 GND@12 (power), 80 IO57, 81 IO58, 82 IO59, 83 IO60, 84 GND@13 (power), 85 IO61, 86 IO62, 87 IO63, 88 IO64, 89 CLK2/I2, 90 VCC@6 (power), 91 GND@14 (power), 92 CLK3/I3, 93 IO65, 94 IO66, 95 IO67, 96 IO68, 97 GND@15 (power), 98 IO69, 99 IO70, 100 IO71, 101 IO72, 102 GND@16 (power), 103 IO73, 104 IO74, 105 IO75, 106 IO76, 107 IO77, 108 TDO (out), 109 GND@17 (power), 110 VCC@7 (power), 111 IO78, 112 IO79, 113 IO80, 114 IO81, 115 IO82, 116 IO83, 117 IO84, 118 GND@18 (power), 119 IO85, 120 IO86, 121 IO87, 122 IO88, 123 IO89, 124 IO90, 125 VCC@8 (power), 126 GND@19 (power), 127 GND@20 (power), 128 VCC@9 (power), 129 IO91, 130 IO92, 131 IO93, 132 IO94, 133 IO95, 134 IO96, 135 GND@21 (power), 136 IO97, 137 IO98, 138 IO99, 139 IO100, 140 IO101, 141 IO102, 142 IO103, 143 VCC@10 (power), 144 GND@22 (power)

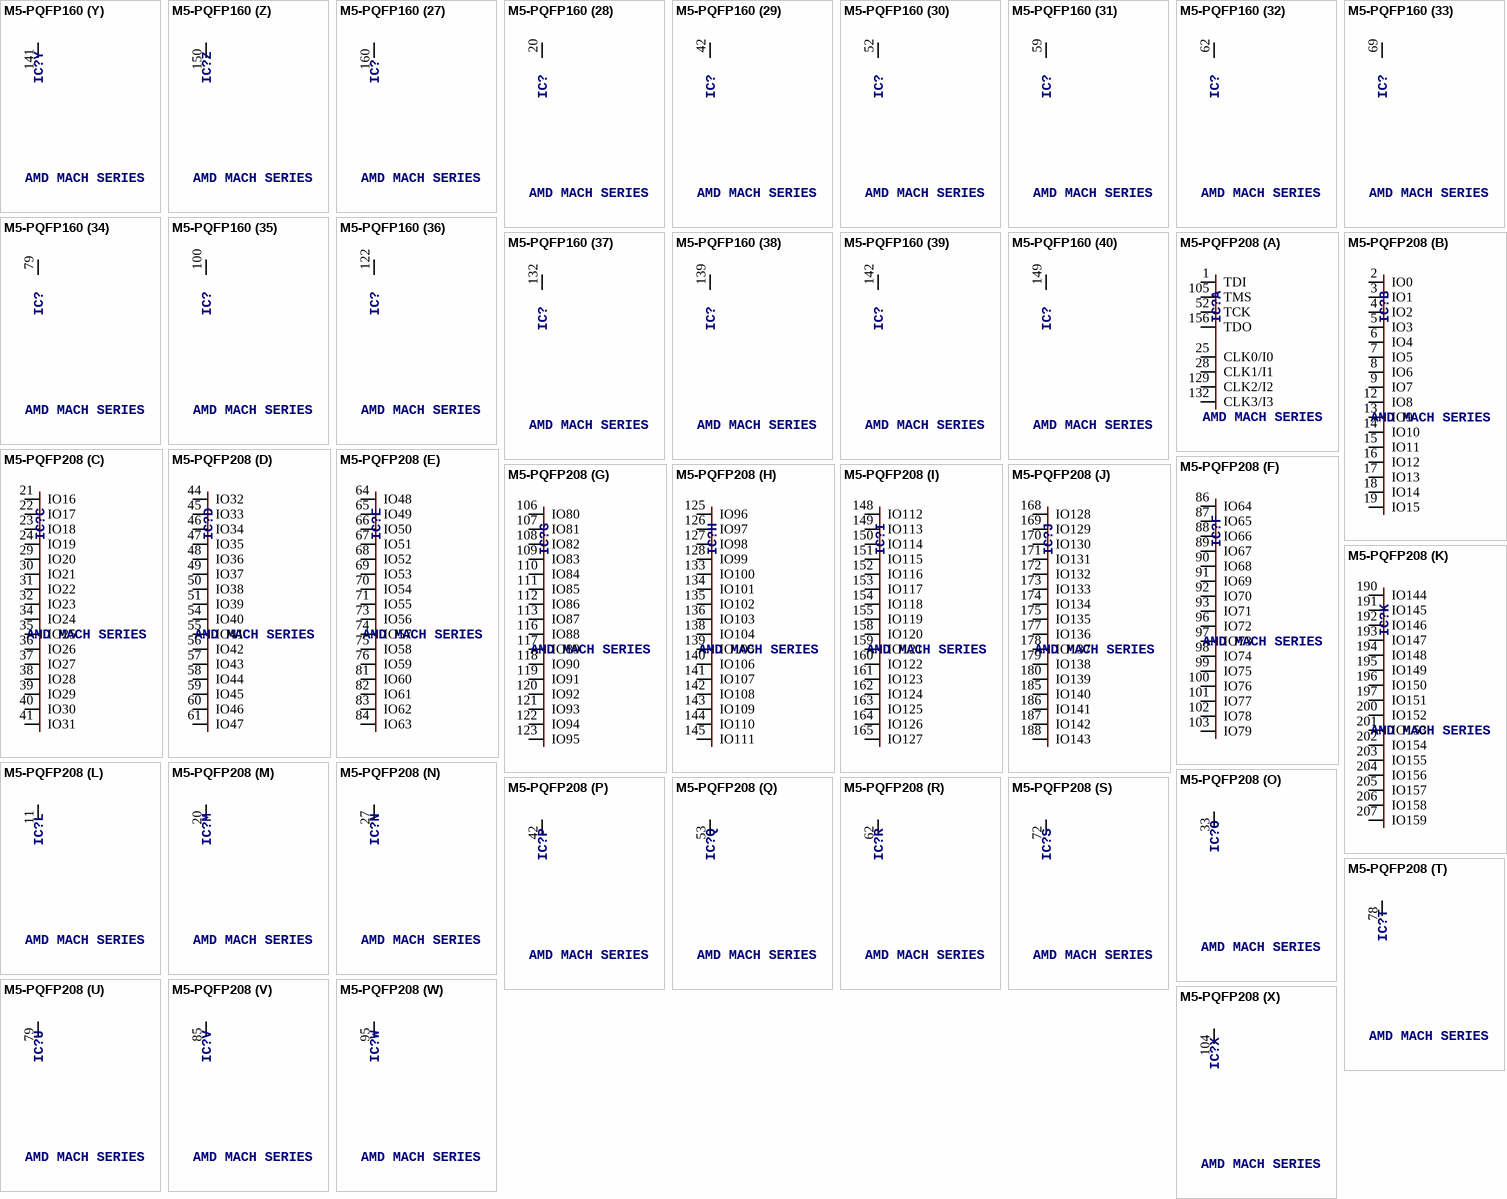
[diagram p6: symbols M5-PQFP160 to M5-PQFP208]

## M5-PQFP160
designator IC?, comment AMD MACH SERIES
OC_FARNELL: unknown; OC_NEWARK: unknown
footprint PQFP160
part A pins: 1 TDI, 19 CLK0/I0, 22 CLK1/I1, 40 TCK, 81 TMS, 99 CLK2/I2, 102 CLK3/I3, 120 TDO
part B pins: 2 IO0, 3 IO1, 4 IO2, 5 IO3, 6 IO4, 7 IO5, 8 IO6, 9 IO7, 11 IO8, 12 IO9, 13 IO10, 14 IO11, 15 IO12, 16 IO13, 17 IO14, 18 IO15
part C pins: 23 IO16, 24 IO17, 25 IO18, 26 IO19, 27 IO20, 28 IO21, 29 IO22, 30 IO23, 32 IO24, 33 IO25, 34 IO26, 35 IO27, 36 IO28, 37 IO29, 38 IO30, 39 IO31
part D pins: 43 IO32, 44 IO33, 45 IO34, 46 IO35, 47 IO36, 48 IO37, 49 IO38, 50 IO39, 53 IO40, 54 IO41, 55 IO42, 56 IO43, 57 IO44, 58 IO45, 63 IO46, 64 IO47
part E pins: 65 IO48, 66 IO49, 67 IO50, 68 IO51, 71 IO52, 72 IO53, 73 IO54, 74 IO55, 75 IO56, 76 IO57, 77 IO58, 78 IO59, 82 IO60, 83 IO61, 84 IO62, 85 IO63
part F pins: 86 IO64, 87 IO65, 88 IO66, 89 IO67, 91 IO68, 92 IO69, 93 IO70, 94 IO71, 95 IO72, 96 IO73, 97 IO74, 98 IO75, 103 IO76, 104 IO77, 105 IO78, 106 IO79
part G pins: 107 IO80, 108 IO81, 109 IO82, 110 IO83, 112 IO84, 113 IO85, 114 IO86, 115 IO87, 116 IO88, 117 IO89, 118 IO90, 119 IO91, 123 IO92, 124 IO93, 125 IO94, 126 IO95
part H pins: 127 IO96, 128 IO97, 129 IO98, 130 IO99, 133 IO100, 134 IO101, 135 IO102, 136 IO103, 137 IO104, 138 IO105, 143 IO106, 144 IO107, 145 IO108, 146 IO109, 147 IO110, 148 IO111
part I pins: 151 IO112, 152 IO113, 153 IO114, 154 IO115, 155 IO116, 156 IO117, 157 IO118, 158 IO119
part J pins: 10 GND (power)
part K pins: 21 GND (power)
part L pins: 31 GND (power)
part M pins: 41 GND (power)
part N pins: 51 GND (power)
part O pins: 60 GND (power)
part P pins: 61 GND (power)
part Q pins: 70 GND (power)
part R pins: 80 GND (power)
part S pins: 90 GND (power)
part T pins: 101 GND (power)
part U pins: 111 GND (power)
part V pins: 121 GND (power)
part W pins: 131 GND (power)
part X pins: 140 GND (power)
part Y pins: 141 GND (power)
part Z pins: 150 GND (power)
part 27 pins: 160 GND (power)
part 28 pins: 20 VCC (power)
part 29 pins: 42 VCC (power)
part 30 pins: 52 VCC (power)
part 31 pins: 59 VCC (power)
part 32 pins: 62 VCC (power)
part 33 pins: 69 VCC (power)
part 34 pins: 79 VCC (power)
part 35 pins: 100 VCC (power)
part 36 pins: 122 VCC (power)
part 37 pins: 132 VCC (power)
part 38 pins: 139 VCC (power)
part 39 pins: 142 VCC (power)
part 40 pins: 149 VCC (power)
part 41 pins: 159 VCC (power)

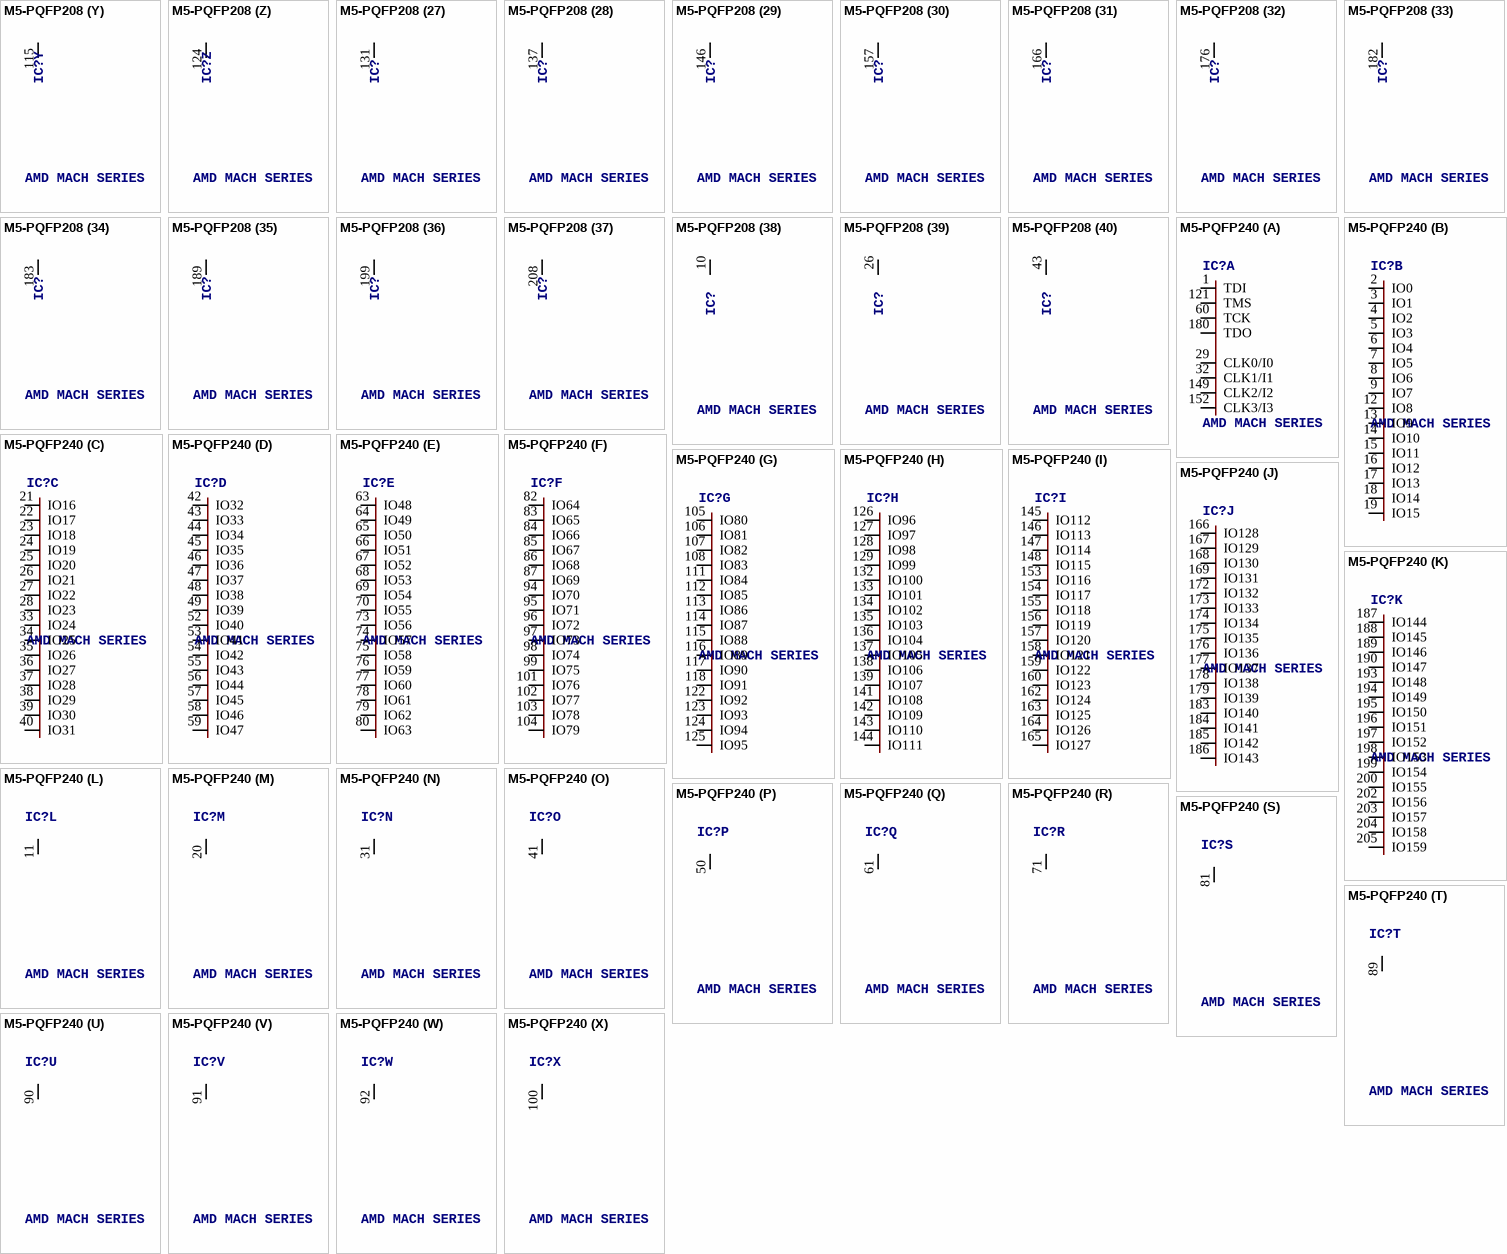
[diagram p7: symbols M5-PQFP208 to M5-PQFP240]

## M5-PQFP208
designator IC?, comment AMD MACH SERIES
OC_FARNELL: unknown; OC_NEWARK: unknown
footprint PQFP208
part A pins: 1 TDI, 25 CLK0/I0, 28 CLK1/I1, 52 TCK, 105 TMS, 129 CLK2/I2, 132 CLK3/I3, 156 TDO
part B pins: 2 IO0, 3 IO1, 4 IO2, 5 IO3, 6 IO4, 7 IO5, 8 IO6, 9 IO7, 12 IO8, 13 IO9, 14 IO10, 15 IO11, 16 IO12, 17 IO13, 18 IO14, 19 IO15
part C pins: 21 IO16, 22 IO17, 23 IO18, 24 IO19, 29 IO20, 30 IO21, 31 IO22, 32 IO23, 34 IO24, 35 IO25, 36 IO26, 37 IO27, 38 IO28, 39 IO29, 40 IO30, 41 IO31
part D pins: 44 IO32, 45 IO33, 46 IO34, 47 IO35, 48 IO36, 49 IO37, 50 IO38, 51 IO39, 54 IO40, 55 IO41, 56 IO42, 57 IO43, 58 IO44, 59 IO45, 60 IO46, 61 IO47
part E pins: 64 IO48, 65 IO49, 66 IO50, 67 IO51, 68 IO52, 69 IO53, 70 IO54, 71 IO55, 73 IO56, 74 IO57, 75 IO58, 76 IO59, 81 IO60, 82 IO61, 83 IO62, 84 IO63
part F pins: 86 IO64, 87 IO65, 88 IO66, 89 IO67, 90 IO68, 91 IO69, 92 IO70, 93 IO71, 96 IO72, 97 IO73, 98 IO74, 99 IO75, 100 IO76, 101 IO77, 102 IO78, 103 IO79
part G pins: 106 IO80, 107 IO81, 108 IO82, 109 IO83, 110 IO84, 111 IO85, 112 IO86, 113 IO87, 116 IO88, 117 IO89, 118 IO90, 119 IO91, 120 IO92, 121 IO93, 122 IO94, 123 IO95
part H pins: 125 IO96, 126 IO97, 127 IO98, 128 IO99, 133 IO100, 134 IO101, 135 IO102, 136 IO103, 138 IO104, 139 IO105, 140 IO106, 141 IO107, 142 IO108, 143 IO109, 144 IO110, 145 IO111
part I pins: 148 IO112, 149 IO113, 150 IO114, 151 IO115, 152 IO116, 153 IO117, 154 IO118, 155 IO119, 158 IO120, 159 IO121, 160 IO122, 161 IO123, 162 IO124, 163 IO125, 164 IO126, 165 IO127
part J pins: 168 IO128, 169 IO129, 170 IO130, 171 IO131, 172 IO132, 173 IO133, 174 IO134, 175 IO135, 177 IO136, 178 IO137, 179 IO138, 180 IO139, 185 IO140, 186 IO141, 187 IO142, 188 IO143
part K pins: 190 IO144, 191 IO145, 192 IO146, 193 IO147, 194 IO148, 195 IO149, 196 IO150, 197 IO151, 200 IO152, 201 IO153, 202 IO154, 203 IO155, 204 IO156, 205 IO157, 206 IO158, 207 IO159
part L pins: 11 GND (power)
part M pins: 20 GND (power)
part N pins: 27 GND (power)
part O pins: 33 GND (power)
part P pins: 42 GND (power)
part Q pins: 53 GND (power)
part R pins: 62 GND (power)
part S pins: 72 GND (power)
part T pins: 78 GND (power)
part U pins: 79 GND (power)
part V pins: 85 GND (power)
part W pins: 95 GND (power)
part X pins: 104 GND (power)
part Y pins: 115 GND (power)
part Z pins: 124 GND (power)
part 27 pins: 131 GND (power)
part 28 pins: 137 GND (power)
part 29 pins: 146 GND (power)
part 30 pins: 157 GND (power)
part 31 pins: 166 GND (power)
part 32 pins: 176 GND (power)
part 33 pins: 182 GND (power)
part 34 pins: 183 GND (power)
part 35 pins: 189 GND (power)
part 36 pins: 199 GND (power)
part 37 pins: 208 GND (power)
part 38 pins: 10 VCC (power)
part 39 pins: 26 VCC (power)
part 40 pins: 43 VCC (power)
part 41 pins: 63 VCC (power)
part 42 pins: 77 VCC (power)
part 43 pins: 80 VCC (power)
part 44 pins: 94 VCC (power)
part 45 pins: 114 VCC (power)
part 46 pins: 130 VCC (power)
part 47 pins: 147 VCC (power)
part 48 pins: 167 VCC (power)
part 49 pins: 181 VCC (power)
part 50 pins: 184 VCC (power)
part 51 pins: 198 VCC (power)

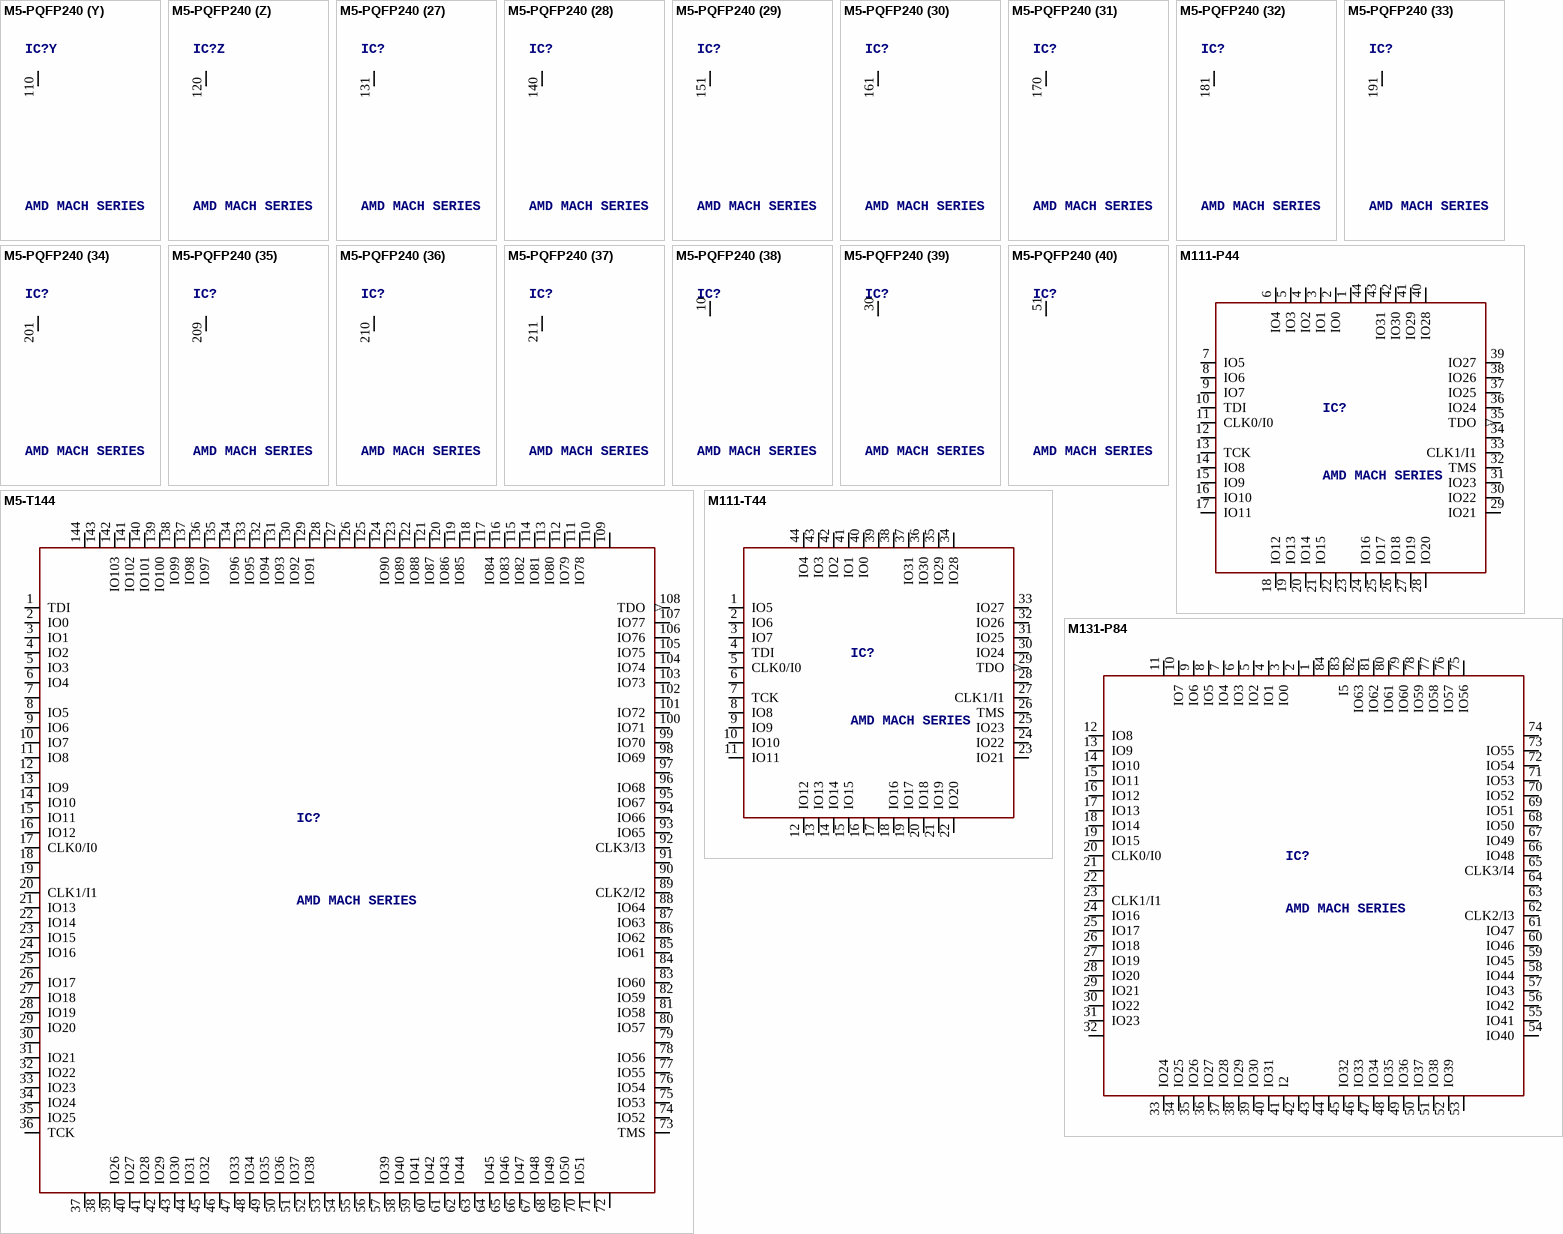
[diagram p8: symbols M5-PQFP240 to M131-P84]

## M5-PQFP240
designator IC?, comment AMD MACH SERIES
OC_FARNELL: unknown; OC_NEWARK: unknown
footprint PQFP240
part A pins: 1 TDI, 29 CLK0/I0, 32 CLK1/I1, 60 TCK, 121 TMS, 149 CLK2/I2, 152 CLK3/I3, 180 TDO
part B pins: 2 IO0, 3 IO1, 4 IO2, 5 IO3, 6 IO4, 7 IO5, 8 IO6, 9 IO7, 12 IO8, 13 IO9, 14 IO10, 15 IO11, 16 IO12, 17 IO13, 18 IO14, 19 IO15
part C pins: 21 IO16, 22 IO17, 23 IO18, 24 IO19, 25 IO20, 26 IO21, 27 IO22, 28 IO23, 33 IO24, 34 IO25, 35 IO26, 36 IO27, 37 IO28, 38 IO29, 39 IO30, 40 IO31
part D pins: 42 IO32, 43 IO33, 44 IO34, 45 IO35, 46 IO36, 47 IO37, 48 IO38, 49 IO39, 52 IO40, 53 IO41, 54 IO42, 55 IO43, 56 IO44, 57 IO45, 58 IO46, 59 IO47
part E pins: 63 IO48, 64 IO49, 65 IO50, 66 IO51, 67 IO52, 68 IO53, 69 IO54, 70 IO55, 73 IO56, 74 IO57, 75 IO58, 76 IO59, 77 IO60, 78 IO61, 79 IO62, 80 IO63
part F pins: 82 IO64, 83 IO65, 84 IO66, 85 IO67, 86 IO68, 87 IO69, 94 IO70, 95 IO71, 96 IO72, 97 IO73, 98 IO74, 99 IO75, 101 IO76, 102 IO77, 103 IO78, 104 IO79
part G pins: 105 IO80, 106 IO81, 107 IO82, 108 IO83, 111 IO84, 112 IO85, 113 IO86, 114 IO87, 115 IO88, 116 IO89, 117 IO90, 118 IO91, 122 IO92, 123 IO93, 124 IO94, 125 IO95
part H pins: 126 IO96, 127 IO97, 128 IO98, 129 IO99, 132 IO100, 133 IO101, 134 IO102, 135 IO103, 136 IO104, 137 IO105, 138 IO106, 139 IO107, 141 IO108, 142 IO109, 143 IO110, 144 IO111
part I pins: 145 IO112, 146 IO113, 147 IO114, 148 IO115, 153 IO116, 154 IO117, 155 IO118, 156 IO119, 157 IO120, 158 IO121, 159 IO122, 160 IO123, 162 IO124, 163 IO125, 164 IO126, 165 IO127
part J pins: 166 IO128, 167 IO129, 168 IO130, 169 IO131, 172 IO132, 173 IO133, 174 IO134, 175 IO135, 176 IO136, 177 IO137, 178 IO138, 179 IO139, 183 IO140, 184 IO141, 185 IO142, 186 IO143
part K pins: 187 IO144, 188 IO145, 189 IO146, 190 IO147, 193 IO148, 194 IO149, 195 IO150, 196 IO151, 197 IO152, 198 IO153, 199 IO154, 200 IO155, 202 IO156, 203 IO157, 204 IO158, 205 IO159
part L pins: 11 GND (power)
part M pins: 20 GND (power)
part N pins: 31 GND (power)
part O pins: 41 GND (power)
part P pins: 50 GND (power)
part Q pins: 61 GND (power)
part R pins: 71 GND (power)
part S pins: 81 GND (power)
part T pins: 89 GND (power)
part U pins: 90 GND (power)
part V pins: 91 GND (power)
part W pins: 92 GND (power)
part X pins: 100 GND (power)
part Y pins: 110 GND (power)
part Z pins: 120 GND (power)
part 27 pins: 131 GND (power)
part 28 pins: 140 GND (power)
part 29 pins: 151 GND (power)
part 30 pins: 161 GND (power)
part 31 pins: 170 GND (power)
part 32 pins: 181 GND (power)
part 33 pins: 191 GND (power)
part 34 pins: 201 GND (power)
part 35 pins: 209 GND (power)
part 36 pins: 210 GND (power)
part 37 pins: 211 GND (power)
part 38 pins: 10 VCC (power)
part 39 pins: 30 VCC (power)
part 40 pins: 51 VCC (power)
part 41 pins: 62 VCC (power)
part 42 pins: 72 VCC (power)
part 43 pins: 88 VCC (power)
part 44 pins: 93 VCC (power)
part 45 pins: 109 VCC (power)
part 46 pins: 119 VCC (power)
part 47 pins: 130 VCC (power)
part 48 pins: 150 VCC (power)
part 49 pins: 171 VCC (power)
part 50 pins: 182 VCC (power)
part 51 pins: 192 VCC (power)
part 52 pins: 208 VCC (power)
part 53 pins: 213 VCC (power)
part 54 pins: 229 VCC (power)
part 55 pins: 239 VCC (power)
part 56 pins: 212 GND (power)
part 57 pins: 220 GND (power)
part 58 pins: 230 GND (power)
part 59 pins: 240 GND (power)
part 60 pins: 206 IO160, 207 IO161, 214 IO162, 215 IO163, 216 IO164, 217 IO165, 218 IO166, 219 IO167, 221 IO168, 222 IO169, 223 IO170, 224 IO171, 225 IO172, 226 IO173, 227 IO174, 228 IO175
part 61 pins: 231 IO176, 232 IO177, 233 IO178, 234 IO179, 235 IO180, 236 IO181, 237 IO182, 238 IO183

## M5-T144
designator IC?, comment AMD MACH SERIES
OC_FARNELL: unknown; OC_NEWARK: unknown
footprint TQFP144
pins: 1 TDI, 2 IO0, 3 IO1, 4 IO2, 5 IO3, 6 IO4, 7 GND@1 (power), 8 IO5, 9 IO6, 10 IO7, 11 IO8, 12 GND@2 (power), 13 IO9, 14 IO10, 15 IO11, 16 IO12, 17 CLK0/I0, 18 VCC@1 (power), 19 GND@3 (power), 20 CLK1/I1, 21 IO13, 22 IO14, 23 IO15, 24 IO16, 25 GND@4 (power), 26 IO17, 27 IO18, 28 IO19, 29 IO20, 30 GND@5 (power), 31 IO21, 32 IO22, 33 IO23, 34 IO24, 35 IO25, 36 TCK, 37 GND@6 (power), 38 VCC@2 (power), 39 IO26, 40 IO27, 41 IO28, 42 IO29, 43 IO30, 44 IO31, 45 IO32, 46 GND@7 (power), 47 IO33, 48 IO34, 49 IO35, 50 IO36, 51 IO37, 52 IO38, 53 VCC@3 (power), 54 GND@8 (power), 55 GND@9 (power), 56 VCC@4 (power), 57 IO39, 58 IO40, 59 IO41, 60 IO42, 61 IO43, 62 IO44, 63 GND@10 (power), 64 IO45, 65 IO46, 66 IO47, 67 IO48, 68 IO49, 69 IO50, 70 IO51, 71 VCC@5 (power), 72 GND@11 (power), 73 TMS, 74 IO52, 75 IO53, 76 IO54, 77 IO55, 78 IO56, 79 GND@12 (power), 80 IO57, 81 IO58, 82 IO59, 83 IO60, 84 GND@13 (power), 85 IO61, 86 IO62, 87 IO63, 88 IO64, 89 CLK2/I2, 90 VCC@6 (power), 91 GND@14 (power), 92 CLK3/I3, 93 IO65, 94 IO66, 95 IO67, 96 IO68, 97 GND@15 (power), 98 IO69, 99 IO70, 100 IO71, 101 IO72, 102 GND@16 (power), 103 IO73, 104 IO74, 105 IO75, 106 IO76, 107 IO77, 108 TDO (out), 109 GND@17 (power), 110 VCC@7 (power), 111 IO78, 112 IO79, 113 IO80, 114 IO81, 115 IO82, 116 IO83, 117 IO84, 118 GND@18 (power), 119 IO85, 120 IO86, 121 IO87, 122 IO88, 123 IO89, 124 IO90, 125 VCC@8 (power), 126 GND@19 (power), 127 GND@20 (power), 128 VCC@9 (power), 129 IO91, 130 IO92, 131 IO93, 132 IO94, 133 IO95, 134 IO96, 135 GND@21 (power), 136 IO97, 137 IO98, 138 IO99, 139 IO100, 140 IO101, 141 IO102, 142 IO103, 143 VCC@10 (power), 144 GND@22 (power)

## M111-P44
designator IC?, comment AMD MACH SERIES
OC_FARNELL: unknown; OC_NEWARK: unknown
footprint PLCC44
pins: 1 GND@1 (power), 2 IO0, 3 IO1, 4 IO2, 5 IO3, 6 IO4, 7 IO5, 8 IO6, 9 IO7, 10 TDI, 11 CLK0/I0, 12 GND@2 (power), 13 TCK, 14 IO8, 15 IO9, 16 IO10, 17 IO11, 18 IO12, 19 IO13, 20 IO14, 21 IO15, 22 VCC@1 (power), 23 GND@3 (power), 24 IO16, 25 IO17, 26 IO18, 27 IO19, 28 IO20, 29 IO21, 30 IO22, 31 IO23, 32 TMS, 33 CLK1/I1, 34 GND@4 (power), 35 TDO (out), 36 IO24, 37 IO25, 38 IO26, 39 IO27, 40 IO28, 41 IO29, 42 IO30, 43 IO31, 44 VCC@2 (power)

## M111-T44
designator IC?, comment AMD MACH SERIES
OC_FARNELL: unknown; OC_NEWARK: unknown
footprint TQFP44
pins: 1 IO5, 2 IO6, 3 IO7, 4 TDI, 5 CLK0/I0, 6 GND@2 (power), 7 TCK, 8 IO8, 9 IO9, 10 IO10, 11 IO11, 12 IO12, 13 IO13, 14 IO14, 15 IO15, 16 VCC@1 (power), 17 GND@3 (power), 18 IO16, 19 IO17, 20 IO18, 21 IO19, 22 IO20, 23 IO21, 24 IO22, 25 IO23, 26 TMS, 27 CLK1/I1, 28 GND@4 (power), 29 TDO (out), 30 IO24, 31 IO25, 32 IO26, 33 IO27, 34 IO28, 35 IO29, 36 IO30, 37 IO31, 38 VCC@2 (power), 39 GND@1 (power), 40 IO0, 41 IO1, 42 IO2, 43 IO3, 44 IO4

## M131-P84
designator IC?, comment AMD MACH SERIES
OC_FARNELL: unknown; OC_NEWARK: unknown
footprint PLCC84
pins: 1 GND@1 (power), 2 VCC@1 (power), 3 IO0, 4 IO1, 5 IO2, 6 IO3, 7 IO4, 8 IO5, 9 IO6, 10 IO7, 11 GND@2 (power), 12 IO8, 13 IO9, 14 IO10, 15 IO11, 16 IO12, 17 IO13, 18 IO14, 19 IO15, 20 CLK0/I0, 21 VCC@2 (power), 22 GND@3 (power), 23 CLK1/I1, 24 IO16, 25 IO17, 26 IO18, 27 IO19, 28 IO20, 29 IO21, 30 IO22, 31 IO23, 32 GND@4 (power), 33 IO24, 34 IO25, 35 IO26, 36 IO27, 37 IO28, 38 IO29, 39 IO30, 40 IO31, 41 I2, 42 VCC@3 (power), 43 GND@5 (power), 44 VCC@4 (power), 45 IO32, 46 IO33, 47 IO34, 48 IO35, 49 IO36, 50 IO37, 51 IO38, 52 IO39, 53 GND@6 (power), 54 IO40, 55 IO41, 56 IO42, 57 IO43, 58 IO44, 59 IO45, 60 IO46, 61 IO47, 62 CLK2/I3, 63 VCC@5 (power), 64 GND@7 (power), 65 CLK3/I4, 66 IO48, 67 IO49, 68 IO50, 69 IO51, 70 IO52, 71 IO53, 72 IO54, 73 IO55, 74 GND@8 (power), 75 IO56, 76 IO57, 77 IO58, 78 IO59, 79 IO60, 80 IO61, 81 IO62, 82 IO63, 83 I5, 84 VCC@6 (power)

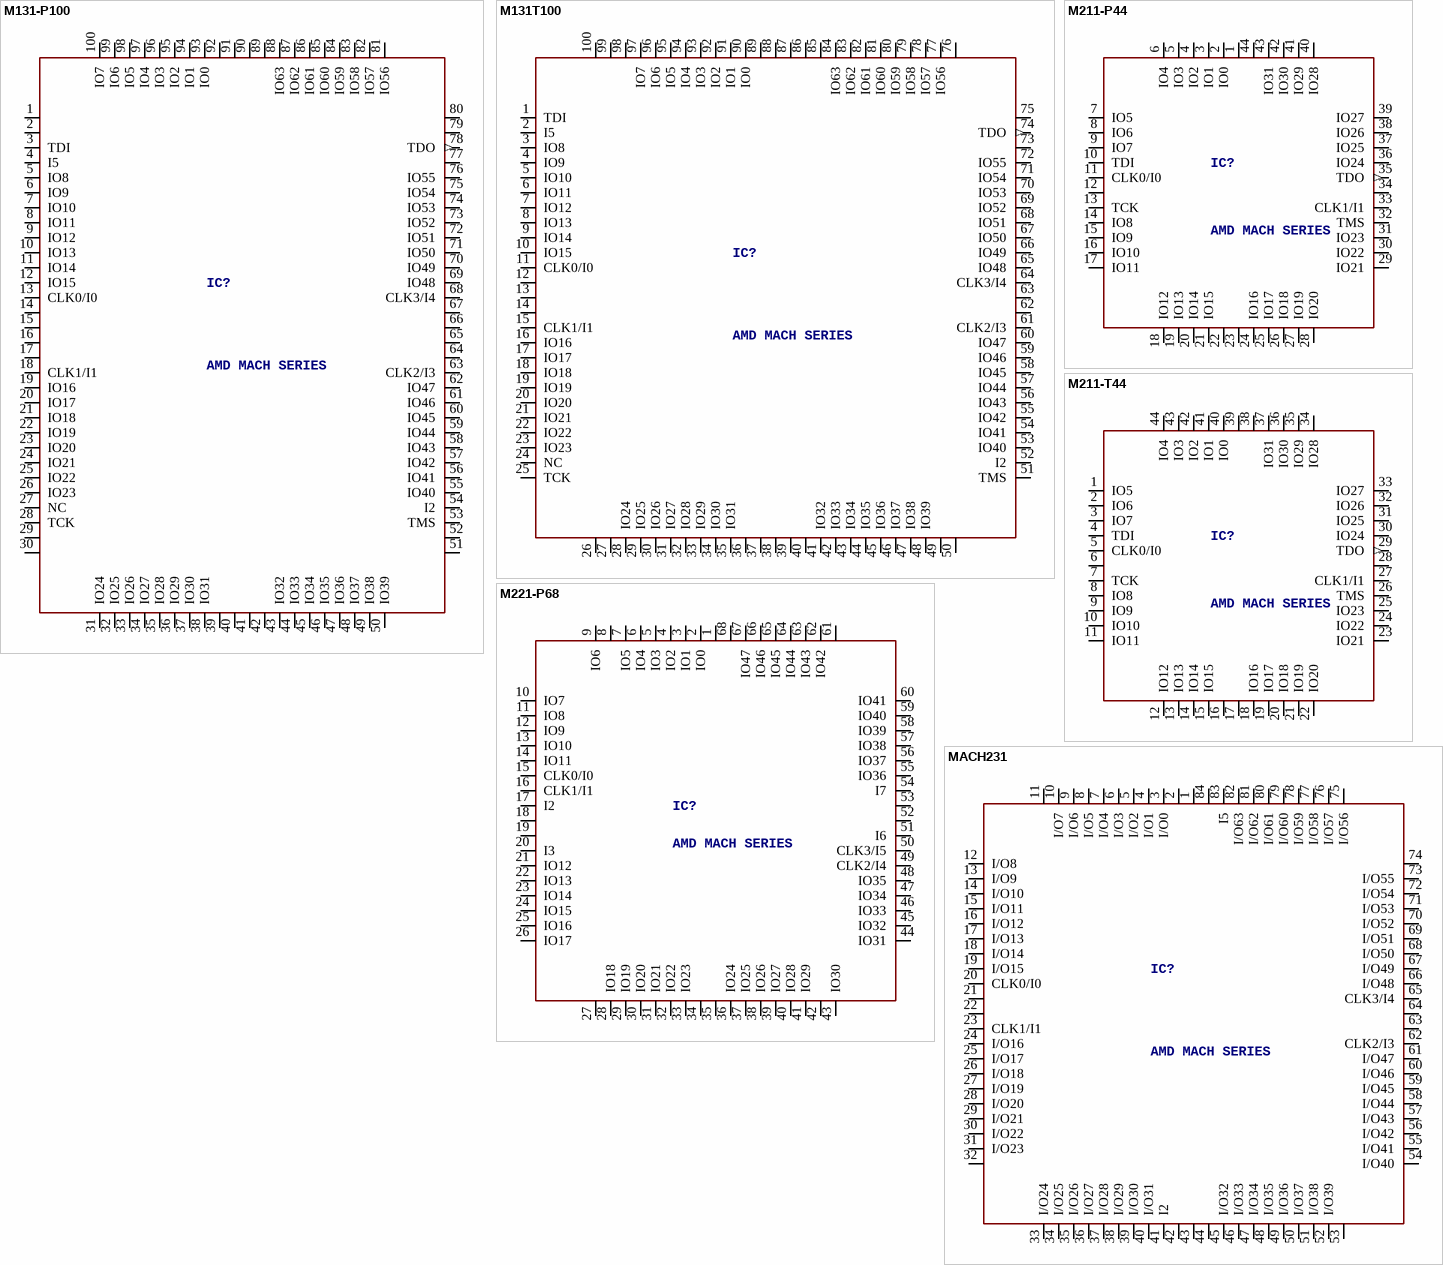
[diagram p9: symbols M131-P100 to MACH231]

## M131-P100
designator IC?, comment AMD MACH SERIES
OC_FARNELL: unknown; OC_NEWARK: unknown
footprint PQFP100
pins: 1 GND@1 (power), 2 GND@2 (power), 3 TDI, 4 I5, 5 IO8, 6 IO9, 7 IO10, 8 IO11, 9 IO12, 10 IO13, 11 IO14, 12 IO15, 13 CLK0/I0, 14 VCC@1 (power), 15 VCC@2 (power), 16 GND@3 (power), 17 GND@4 (power), 18 CLK1/I1, 19 IO16, 20 IO17, 21 IO18, 22 IO19, 23 IO20, 24 IO21, 25 IO22, 26 IO23, 27 NC, 28 TCK, 29 GND@5 (power), 30 GND@6 (power), 31 IO24, 32 IO25, 33 IO26, 34 IO27, 35 IO28, 36 IO29, 37 IO30, 38 IO31, 39 VCC@4 (power), 40 GND@7 (power), 41 GND@8 (power), 42 VCC@5 (power), 43 IO32, 44 IO33, 45 IO34, 46 IO35, 47 IO36, 48 IO37, 49 IO38, 50 IO39, 51 GND@9 (power), 52 GND@10 (power), 53 TMS, 54 I2, 55 IO40, 56 IO41, 57 IO42, 58 IO43, 59 IO44, 60 IO45, 61 IO46, 62 IO47, 63 CLK2/I3, 64 VCC@6 (power), 65 VCC@7 (power), 66 GND@11 (power), 67 GND@12 (power), 68 CLK3/I4, 69 IO48, 70 IO49, 71 IO50, 72 IO51, 73 IO52, 74 IO53, 75 IO54, 76 IO55, 77 NC1, 78 TDO (out), 79 GND@13 (power), 80 GND@14 (power), 81 IO56, 82 IO57, 83 IO58, 84 IO59, 85 IO60, 86 IO61, 87 IO62, 88 IO63, 89 VCC@8 (power), 90 GND@15 (power), 91 GND@16 (power), 92 VCC@9 (power), 93 IO0, 94 IO1, 95 IO2, 96 IO3, 97 IO4, 98 IO5, 99 IO6, 100 IO7

## M131T100
designator IC?, comment AMD MACH SERIES
OC_FARNELL: unknown; OC_NEWARK: unknown
footprint TQFP100
pins: 1 TDI, 2 I5, 3 IO8, 4 IO9, 5 IO10, 6 IO11, 7 IO12, 8 IO13, 9 IO14, 10 IO15, 11 CLK0/I0, 12 VCC@1 (power), 13 GND@1 (power), 14 GND@2 (power), 15 CLK1/I1, 16 IO16, 17 IO17, 18 IO18, 19 IO19, 20 IO20, 21 IO21, 22 IO22, 23 IO23, 24 NC, 25 TCK, 26 GND@4 (power), 27 GND@5 (power), 28 IO24, 29 IO25, 30 IO26, 31 IO27, 32 IO28, 33 IO29, 34 IO30, 35 IO31, 36 NC1, 37 VCC@4 (power), 38 GND@6 (power), 39 GND@7 (power), 40 VCC@5 (power), 41 IO32, 42 IO33, 43 IO34, 44 IO35, 45 IO36, 46 IO37, 47 IO38, 48 IO39, 49 GND@8 (power), 50 GND@9 (power), 51 TMS, 52 I2, 53 IO40, 54 IO41, 55 IO42, 56 IO43, 57 IO44, 58 IO45, 59 IO46, 60 IO47, 61 CLK2/I3, 62 VCC@7 (power), 63 GND@11 (power), 64 CLK3/I4, 65 IO48, 66 IO49, 67 IO50, 68 IO51, 69 IO52, 70 IO53, 71 IO54, 72 IO55, 73 NC2, 74 TDO (out), 75 GND@12 (power), 76 GND@14 (power), 77 IO56, 78 IO57, 79 IO58, 80 IO59, 81 IO60, 82 IO61, 83 IO62, 84 IO63, 85 NC3, 86 VCC@8 (power), 87 GND@15 (power), 88 GND@16 (power), 89 VCC@9 (power), 90 IO0, 91 IO1, 92 IO2, 93 IO3, 94 IO4, 95 IO5, 96 IO6, 97 IO7, 98 NC4, 99 GND@17 (power), 100 GND@18 (power)

## M211-P44
designator IC?, comment AMD MACH SERIES
OC_FARNELL: unknown; OC_NEWARK: unknown
footprint PLCC44
pins: 1 GND@1 (power), 2 IO0, 3 IO1, 4 IO2, 5 IO3, 6 IO4, 7 IO5, 8 IO6, 9 IO7, 10 TDI, 11 CLK0/I0, 12 GND@2 (power), 13 TCK, 14 IO8, 15 IO9, 16 IO10, 17 IO11, 18 IO12, 19 IO13, 20 IO14, 21 IO15, 22 VCC@1 (power), 23 GND@3 (power), 24 IO16, 25 IO17, 26 IO18, 27 IO19, 28 IO20, 29 IO21, 30 IO22, 31 IO23, 32 TMS, 33 CLK1/I1, 34 GND@4 (power), 35 TDO (out), 36 IO24, 37 IO25, 38 IO26, 39 IO27, 40 IO28, 41 IO29, 42 IO30, 43 IO31, 44 VCC@2 (power)

## M211-T44
designator IC?, comment AMD MACH SERIES
OC_FARNELL: unknown; OC_NEWARK: unknown
footprint TQFP44
pins: 1 IO5, 2 IO6, 3 IO7, 4 TDI, 5 CLK0/I0, 6 GND@2 (power), 7 TCK, 8 IO8, 9 IO9, 10 IO10, 11 IO11, 12 IO12, 13 IO13, 14 IO14, 15 IO15, 16 VCC@1 (power), 17 GND@3 (power), 18 IO16, 19 IO17, 20 IO18, 21 IO19, 22 IO20, 23 IO21, 24 IO22, 25 IO23, 26 TMS, 27 CLK1/I1, 28 GND@4 (power), 29 TDO (out), 30 IO24, 31 IO25, 32 IO26, 33 IO27, 34 IO28, 35 IO29, 36 IO30, 37 IO31, 38 VCC@2 (power), 39 GND@1 (power), 40 IO0, 41 IO1, 42 IO2, 43 IO3, 44 IO4

## M221-P68
designator IC?, comment AMD MACH SERIES
OC_FARNELL: unknown; OC_NEWARK: unknown
footprint PLCC68
pins: 1 GND@1 (power), 2 IO0, 3 IO1, 4 IO2, 5 IO3, 6 IO4, 7 IO5, 8 GND@2 (power), 9 IO6, 10 IO7, 11 IO8, 12 IO9, 13 IO10, 14 IO11, 15 CLK0/I0, 16 CLK1/I1, 17 I2, 18 VCC@2 (power), 19 GND@3 (power), 20 I3, 21 IO12, 22 IO13, 23 IO14, 24 IO15, 25 IO16, 26 IO17, 27 GND@4 (power), 28 IO18, 29 IO19, 30 IO20, 31 IO21, 32 IO22, 33 IO23, 34 VCC@3 (power), 35 GND@5 (power), 36 IO24, 37 IO25, 38 IO26, 39 IO27, 40 IO28, 41 IO29, 42 GND@6 (power), 43 IO30, 44 IO31, 45 IO32, 46 IO33, 47 IO34, 48 IO35, 49 CLK2/I4, 50 CLK3/I5, 51 I6, 52 VCC@5 (power), 53 GND@7 (power), 54 I7, 55 IO36, 56 IO37, 57 IO38, 58 IO39, 59 IO40, 60 IO41, 61 GND@8 (power), 62 IO42, 63 IO43, 64 IO44, 65 IO45, 66 IO46, 67 IO47, 68 VCC@6 (power)

## MACH231
designator IC?, comment AMD MACH SERIES
OC_FARNELL: unknown; OC_NEWARK: unknown
footprint PLCC84
pins: 1 GND@1 (power), 2 VCC@1 (power), 3 I/O0, 4 I/O1, 5 I/O2, 6 I/O3, 7 I/O4, 8 I/O5, 9 I/O6, 10 I/O7, 11 GND@2 (power), 12 I/O8, 13 I/O9, 14 I/O10, 15 I/O11, 16 I/O12, 17 I/O13, 18 I/O14, 19 I/O15, 20 CLK0/I0, 21 VCC@2 (power), 22 GND@3 (power), 23 CLK1/I1, 24 I/O16, 25 I/O17, 26 I/O18, 27 I/O19, 28 I/O20, 29 I/O21, 30 I/O22, 31 I/O23, 32 GND@4 (power), 33 I/O24, 34 I/O25, 35 I/O26, 36 I/O27, 37 I/O28, 38 I/O29, 39 I/O30, 40 I/O31, 41 I2, 42 VCC@3 (power), 43 GND@5 (power), 44 VCC@4 (power), 45 I/O32, 46 I/O33, 47 I/O34, 48 I/O35, 49 I/O36, 50 I/O37, 51 I/O38, 52 I/O39, 53 GND@6 (power), 54 I/O40, 55 I/O41, 56 I/O42, 57 I/O43, 58 I/O44, 59 I/O45, 60 I/O46, 61 I/O47, 62 CLK2/I3, 63 VCC@5 (power), 64 GND@7 (power), 65 CLK3/I4, 66 I/O48, 67 I/O49, 68 I/O50, 69 I/O51, 70 I/O52, 71 I/O53, 72 I/O54, 73 I/O55, 74 GND@8 (power), 75 I/O56, 76 I/O57, 77 I/O58, 78 I/O59, 79 I/O60, 80 I/O61, 81 I/O62, 82 I/O63, 83 I5, 84 VCC@6 (power)

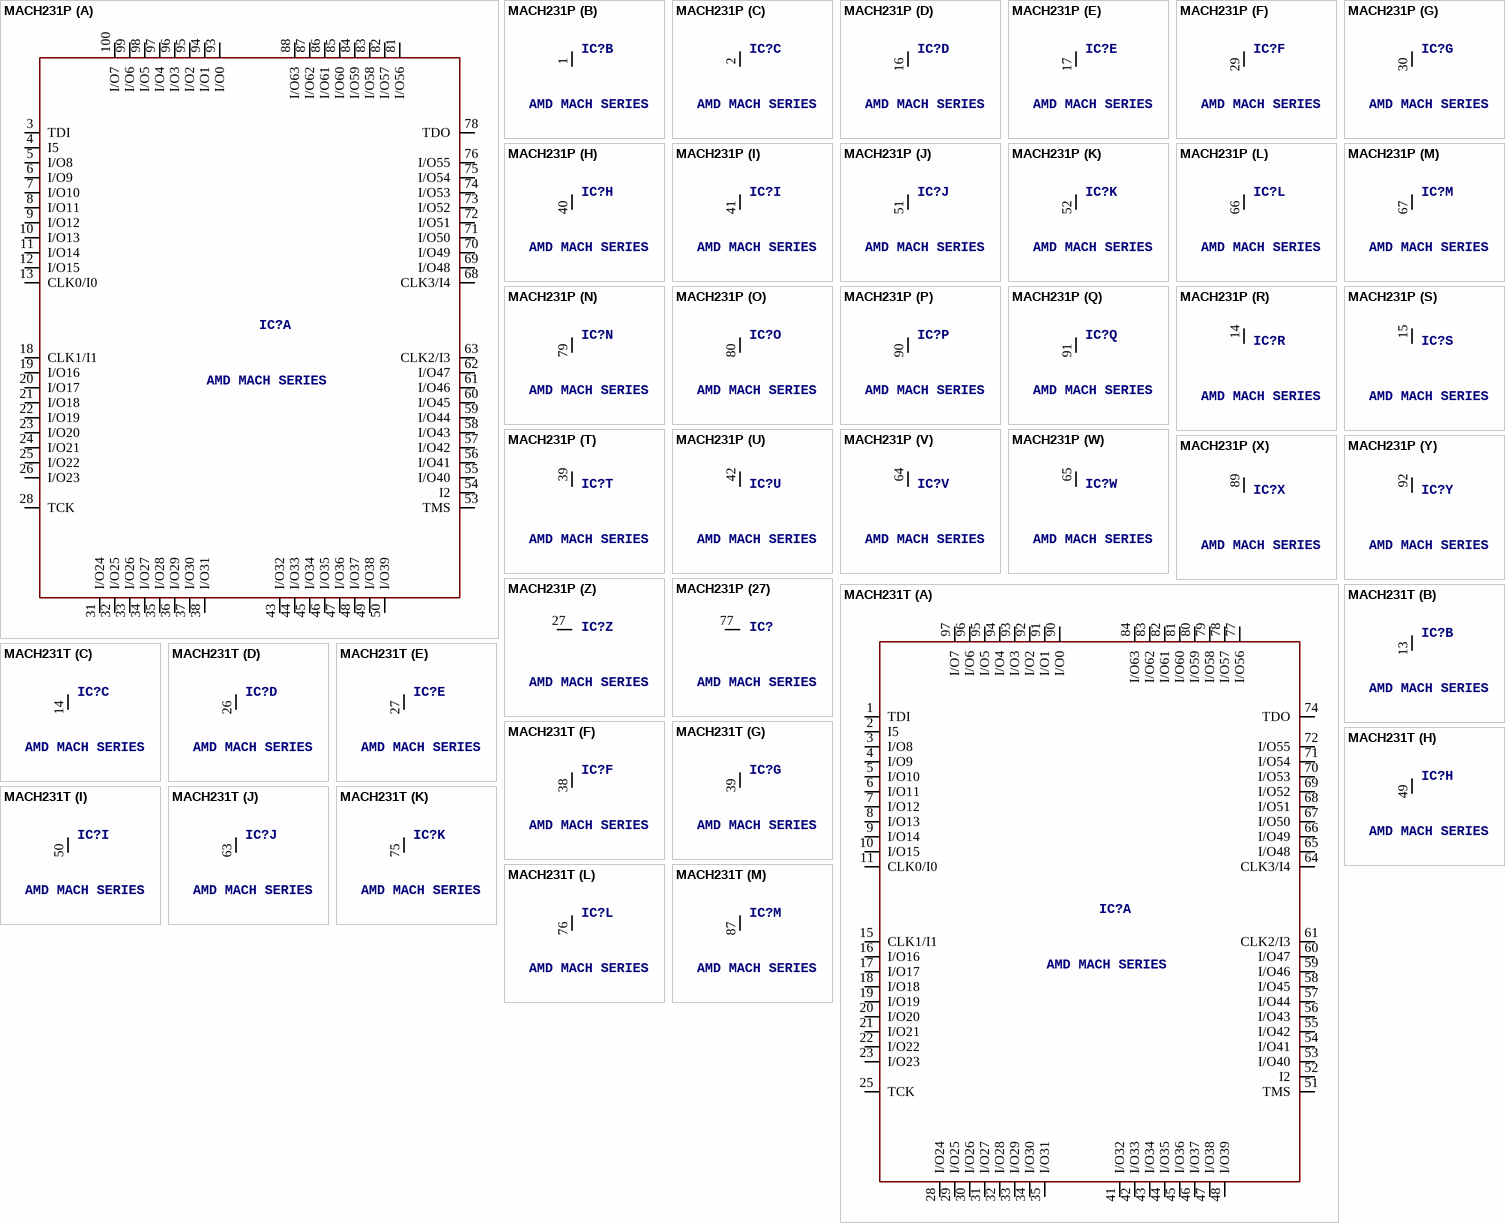
[diagram p10: symbols MACH231P to MACH231T]